# Altium schematic symbol library Schlib_Xilinx.SchLib: 18 symbols (part 3 of 5)
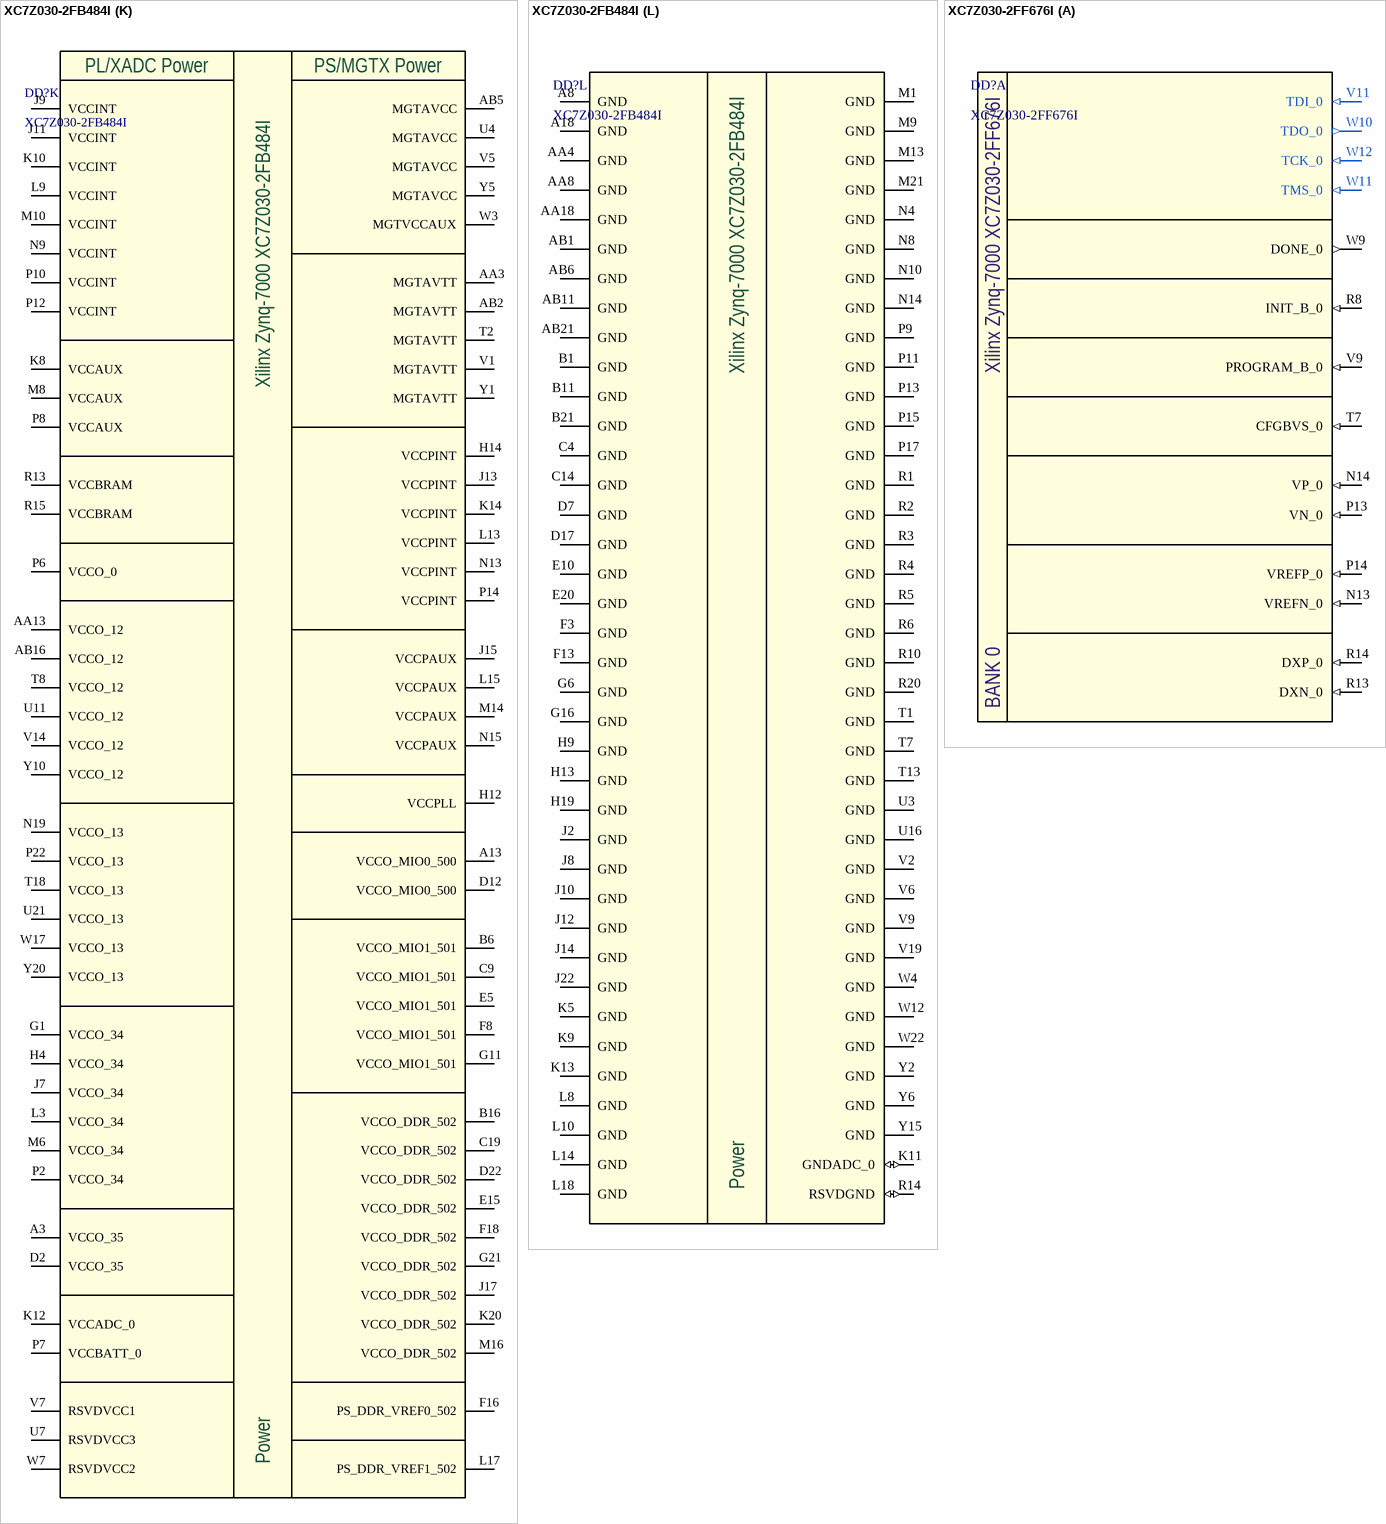
[diagram p59: symbols XC7Z030-2FB484I to XC7Z030-2FF676I]

## XC7Z030-2FB484I
designator DD?
Zynq-7000 Series SoC, Speed Grade 2, Industrial Grade; Manufacturer: Xilinx; Speed Grade: -2; PackageReference: FBG484; Part Number: XC7Z030-2FB484I
footprint FBG484/FBV484 (FBG484/FBV484 Package, 484-Leads, Body 23.00x23.00mmx2.54mm, Pitch 1.00mm)
part A pins: AA7 PROGRAM_B_0 (in), AB7 CFGBVS_0 (in), L11 VREFN_0 (in), L12 VP_0 (in), M11 VN_0 (in), M12 VREFP_0 (in), N11 DXN_0 (in), N12 DXP_0 (in), R7 DONE_0 (out), R8 TDI_0 (in), R9 TMS_0 (in), R11 TDO_0 (out), R12 TCK_0 (in), Y7 INIT_B_0 (in)
part B pins: AA9 IO_L2N_T0_12 (io), AA10 IO_L9P_T1_DQS_12 (io), AA11 IO_L10N_T1_12 (io), AA12 IO_L10P_T1_12 (io), AA14 IO_L16P_T2_12 (io), AA15 IO_L18P_T2_12 (io), AA16 IO_L15N_T2_DQS_12 (io), AA17 IO_L17P_T2_12 (io), AB8 IO_L7N_T1_12 (io), AB9 IO_L7P_T1_12 (io), AB10 IO_L9N_T1_DQS_12 (io), AB12 IO_L8N_T1_12 (io), AB13 IO_L8P_T1_12 (io), AB14 IO_L16N_T2_12 (io), AB15 IO_L18N_T2_12 (io), AB17 IO_L17N_T2_12 (io), T9 IO_L1N_T0_12 (io), T10 IO_L1P_T0_12 (io), T11 IO_25_12 (io), T12 IO_L20P_T3_12 (io), T14 IO_0_12 (io), U8 IO_L3N_T0_DQS_12 (io), U9 IO_L3P_T0_DQS_12 (io), U10 IO_L6P_T0_12 (io), U12 IO_L20N_T3_12 (io), U13 IO_L22P_T3_12 (io), U14 IO_L23N_T3_12 (io), U15 IO_L23P_T3_12 (io), V8 IO_L5P_T0_12 (io), V10 IO_L6N_T0_VREF_12 (io), V11 IO_L24N_T3_12 (io), V12 IO_L24P_T3_12 (io), V13 IO_L22N_T3_12 (io), V15 IO_L19P_T3_12 (io), V16 IO_L21P_T3_DQS_12 (io), W8 IO_L5N_T0_12 (io), W9 IO_L4P_T0_12 (io), W10 IO_L11N_T1_SRCC_12 (io), W11 IO_L11P_T1_SRCC_12 (io), W13 IO_L13N_T2_MRCC_12 (io), W14 IO_L13P_T2_MRCC_12 (io), W15 IO_L19N_T3_VREF_12 (io), W16 IO_L21N_T3_DQS_12 (io), Y8 IO_L4N_T0_12 (io), Y9 IO_L2P_T0_12 (io), Y11 IO_L12N_T1_MRCC_12 (io), Y12 IO_L12P_T1_MRCC_12 (io), Y13 IO_L14N_T2_SRCC_12 (io), Y14 IO_L14P_T2_SRCC_12 (io), Y16 IO_L15P_T2_DQS_12 (io)
part C pins: AA19 IO_L24N_T3_13 (io), AA20 IO_L3P_T0_DQS_13 (io), AA21 IO_L2N_T0_13 (io), AA22 IO_L1P_T0_13 (io), AB18 IO_L23P_T3_13 (io), AB19 IO_L23N_T3_13 (io), AB20 IO_L3N_T0_DQS_13 (io), AB22 IO_L1N_T0_13 (io), N17 IO_L17P_T2_13 (io), N18 IO_L17N_T2_13 (io), N20 IO_L16P_T2_13 (io), N21 IO_L7P_T1_13 (io), N22 IO_L7N_T1_13 (io), P16 IO_0_13 (io), P18 IO_L18P_T2_13 (io), P19 IO_L18N_T2_13 (io), P20 IO_L16N_T2_13 (io), P21 IO_L10P_T1_13 (io), R16 IO_L15P_T2_DQS_13 (io), R17 IO_L14P_T2_SRCC_13 (io), R18 IO_L14N_T2_SRCC_13 (io), R19 IO_L12P_T1_MRCC_13 (io), R21 IO_L10N_T1_13 (io), R22 IO_L8P_T1_13 (io), T15 IO_25_13 (io), T16 IO_L15N_T2_DQS_13 (io), T17 IO_L13P_T2_MRCC_13 (io), T19 IO_L12N_T1_MRCC_13 (io), T20 IO_L11P_T1_SRCC_13 (io), T21 IO_L9P_T1_DQS_13 (io), T22 IO_L8N_T1_13 (io), U17 IO_L13N_T2_MRCC_13 (io), U18 IO_L19P_T3_13 (io), U19 IO_L20P_T3_13 (io), U20 IO_L11N_T1_SRCC_13 (io), U22 IO_L9N_T1_DQS_13 (io), V17 IO_L22P_T3_13 (io), V18 IO_L19N_T3_VREF_13 (io), V20 IO_L20N_T3_13 (io), V21 IO_L5P_T0_13 (io), V22 IO_L5N_T0_13 (io), W18 IO_L22N_T3_13 (io), W19 IO_L6P_T0_13 (io), W20 IO_L6N_T0_VREF_13 (io), W21 IO_L4P_T0_13 (io), Y17 IO_L21P_T3_DQS_13 (io), Y18 IO_L21N_T3_DQS_13 (io), Y19 IO_L24P_T3_13 (io), Y21 IO_L2P_T0_13 (io), Y22 IO_L4N_T0_13 (io)
part D pins: E1 IO_L1N_T0_34 (io), F1 IO_L1P_T0_34 (io), F2 IO_L3N_T0_DQS_34 (io), F4 IO_L8N_T1_34 (io), F5 IO_L8P_T1_34 (io), F6 IO_L10N_T1_34 (io), F7 IO_L10P_T1_34 (io), G2 IO_L3P_T0_DQS_PUDC_B_34 (io), G3 IO_L6N_T0_VREF_34 (io), G4 IO_L6P_T0_34 (io), G5 IO_L11N_T1_SRCC_34 (io), G7 IO_L9N_T1_DQS_34 (io), H1 IO_L5N_T0_34 (io), H2 IO_L5P_T0_34 (io), H3 IO_L4N_T0_34 (io), H5 IO_L11P_T1_SRCC_34 (io), H6 IO_L7N_T1_34 (io), H7 IO_L9P_T1_DQS_34 (io), J1 IO_L2N_T0_34 (io), J3 IO_L4P_T0_34 (io), J4 IO_L12N_T1_MRCC_34 (io), J5 IO_L12P_T1_MRCC_34 (io), J6 IO_L7P_T1_34 (io), K1 IO_L2P_T0_34 (io), K2 IO_L21N_T3_DQS_34 (io), K3 IO_L21P_T3_DQS_34 (io), K4 IO_L14N_T2_SRCC_34 (io), K6 IO_L16N_T2_34 (io), K7 IO_L16P_T2_34 (io), L1 IO_L23N_T3_34 (io), L2 IO_L23P_T3_34 (io), L4 IO_L14P_T2_SRCC_34 (io), L5 IO_L13N_T2_MRCC_34 (io), L6 IO_L18N_T2_34 (io), L7 IO_L18P_T2_34 (io), M2 IO_L20N_T3_34 (io), M3 IO_L20P_T3_34 (io), M4 IO_L17N_T2_34 (io), M5 IO_L13P_T2_MRCC_34 (io), M7 IO_0_VRN_34 (io), N1 IO_L24N_T3_34 (io), N2 IO_L22N_T3_34 (io), N3 IO_L22P_T3_34 (io), N5 IO_L17P_T2_34 (io), N6 IO_L15N_T2_DQS_34 (io), N7 IO_L15P_T2_DQS_34 (io), P1 IO_L24P_T3_34 (io), P3 IO_L19N_T3_VREF_34 (io), P4 IO_L19P_T3_34 (io), P5 IO_25_VRP_34 (io)
part E pins: A1 IO_L3N_T0_DQS_AD1N_35 (io), A2 IO_L3P_T0_DQS_AD1P_35 (io), A4 IO_L2N_T0_AD8N_35 (io), B2 IO_L1N_T0_AD0N_35 (io), B3 IO_0_VRN_35 (io), B4 IO_L2P_T0_AD8P_35 (io), C1 IO_L5N_T0_AD9N_35 (io), C2 IO_L1P_T0_AD0P_35 (io), C3 IO_L6N_T0_VREF_35 (io), D1 IO_L5P_T0_AD9P_35 (io), D3 IO_L19N_T3_VREF_35 (io), E2 IO_25_VRP_35 (io), E3 IO_L19P_T3_35 (io)
part F pins: AA1 MGTXTXN1_112 (out), AA2 MGTXTXP1_112 (out), AA5 MGTXRXN0_112 (in), AA6 MGTXRXP0_112 (in), AB3 MGTXTXN0_112 (out), AB4 MGTXTXP0_112 (out), T3 MGTXRXN3_112 (in), T4 MGTXRXP3_112 (in), T5 MGTRREF_112 (in), T6 MGTAVTTRCAL_112, U1 MGTXTXN3_112 (out), U2 MGTXTXP3_112 (out), U5 MGTREFCLK0N_112 (in), U6 MGTREFCLK0P_112 (in), V3 MGTXRXN2_112 (in), V4 MGTXRXP2_112 (in), W1 MGTXTXN2_112 (out), W2 MGTXTXP2_112 (out), W5 MGTREFCLK1N_112 (in), W6 MGTREFCLK1P_112 (in), Y3 MGTXRXN1_112 (in), Y4 MGTXRXP1_112 (in)
part G pins: A12 PS_CLK_500 (io), A14 PS_MIO9_500 (io), A15 PS_MIO7_500 (io), B12 PS_MIO8_500 (io), B13 PS_MIO5_500 (io), B14 PS_MIO3_500 (io), B15 PS_MIO1_500 (io), C12 PS_POR_B_500 (io), C13 PS_MIO10_500 (io), C15 PS_MIO2_500 (io), D13 PS_MIO14_500 (io), D14 PS_MIO13_500 (io), D15 PS_MIO6_500 (io), E12 PS_MIO12_500 (io), E13 PS_MIO15_500 (io), E14 PS_MIO11_500 (io), F12 PS_MIO4_500 (io), G13 PS_MIO0_500 (io)
part H pins: A5 PS_MIO35_501 (io), A6 PS_MIO31_501 (io), A7 PS_MIO27_501 (io), A9 PS_MIO21_501 (io), A10 PS_MIO17_501 (io), A11 PS_MIO19_501 (io), B5 PS_MIO44_501 (io), B7 PS_MIO38_501 (io), B8 PS_MIO33_501 (io), B9 PS_MIO25_501 (io), B10 PS_MIO23_501 (io), C5 PS_MIO41_501 (io), C6 PS_MIO47_501 (io), C7 PS_MIO53_501 (io), C8 PS_MIO46_501 (io), C10 PS_MIO40_501 (io), C11 PS_MIO29_501 (io), D4 PS_MIO36_501 (io), D5 PS_MIO39_501 (io), D6 PS_MIO43_501 (io), D8 PS_MIO52_501 (io), D9 PS_MIO51_501 (io), D10 PS_MIO49_501 (io), D11 PS_MIO42_501 (io), E4 PS_MIO34_501 (io), E6 PS_MIO32_501 (io), E7 PS_MIO37_501 (io), E8 PS_MIO50_501 (io), E9 PS_MIO45_501 (io), E11 PS_SRST_B_501 (io), F9 PS_MIO30_501 (io), F10 PS_MIO_VREF_501 (io), F11 PS_MIO24_501 (io), G8 PS_MIO48_501 (io), G9 PS_MIO26_501 (io), G10 PS_MIO16_501 (io), G12 PS_MIO22_501 (io), H8 PS_MIO28_501 (io), H10 PS_MIO20_501 (io), H11 PS_MIO18_501 (io)
part I pins: A16 PS_DDR_DQ0_502 (io), A17 PS_DDR_DQ6_502 (io), A19 PS_DDR_DQ5_502 (io), A21 PS_DDR_DQ10_502 (io), B17 PS_DDR_DQS_P0_502 (io), B18 PS_DDR_DQS_N0_502 (io), B19 PS_DDR_DQ4_502 (io), B20 PS_DDR_DQ8_502 (io), B22 PS_DDR_DQ12_502 (io), C16 PS_DDR_DQ2_502 (io), C17 PS_DDR_DQ3_502 (io), C18 PS_DDR_DQ7_502 (io), C20 PS_DDR_DQ14_502 (io), C21 PS_DDR_DQS_N1_502 (io), C22 PS_DDR_DQ15_502 (io), D19 PS_DDR_DQ1_502 (io), D20 PS_DDR_DQ13_502 (io), D21 PS_DDR_DQS_P1_502 (io), E21 PS_DDR_DQ9_502 (io), E22 PS_DDR_DQ11_502 (io), F21 PS_DDR_DQ17_502 (io), F22 PS_DDR_DQ19_502 (io), G19 PS_DDR_DQ16_502 (io), G20 PS_DDR_DQ18_502 (io), G22 PS_DDR_DQ21_502 (io), H20 PS_DDR_DQS_P2_502 (io), H21 PS_DDR_DQS_N2_502 (io), H22 PS_DDR_DQ20_502 (io), J20 PS_DDR_DQ23_502 (io), J21 PS_DDR_DQ22_502 (io), K19 PS_DDR_DQ24_502 (io), K21 PS_DDR_DQ30_502 (io), K22 PS_DDR_DQ28_502 (io), L19 PS_DDR_DQ26_502 (io), L20 PS_DDR_DQS_P3_502 (io), L21 PS_DDR_DQS_N3_502 (io), L22 PS_DDR_DQ29_502 (io), M19 PS_DDR_DQ25_502 (io), M20 PS_DDR_DQ27_502 (io), M22 PS_DDR_DQ31_502 (io)
part J pins: A20 PS_DDR_DM0_502 (io), A22 PS_DDR_DM1_502 (io), D16 PS_DDR_A13_502 (io), D18 PS_DDR_A11_502 (io), E16 PS_DDR_DRST_B_502 (io), E17 PS_DDR_A10_502 (io), E18 PS_DDR_A7_502 (io), E19 PS_DDR_A5_502 (io), F14 PS_DDR_A12_502 (io), F15 PS_DDR_A4_502 (io), F17 PS_DDR_A8_502 (io), F19 PS_DDR_A3_502 (io), F20 PS_DDR_DM2_502 (io), G14 PS_DDR_A14_502 (io), G15 PS_DDR_A0_502 (io), G17 PS_DDR_CKN_502 (io), G18 PS_DDR_BA0_502 (io), H15 PS_DDR_A6_502 (io), H16 PS_DDR_A9_502 (io), H17 PS_DDR_CKP_502 (io), H18 PS_DDR_BA1_502 (io), J16 PS_DDR_A1_502 (io), J18 PS_DDR_BA2_502 (io), J19 PS_DDR_DM3_502 (io), K15 PS_DDR_A2_502 (io), K16 PS_DDR_CS_B_502 (io), K17 PS_DDR_VRP_502 (io), K18 PS_DDR_VRN_502 (io), L16 PS_DDR_WE_B_502 (io), M15 PS_DDR_CKE_502 (io), M17 PS_DDR_RAS_B_502 (io), M18 PS_DDR_CAS_B_502 (io), N16 PS_DDR_ODT_502 (io)
part K pins: A3 VCCO_35 (power), A13 VCCO_MIO0_500 (power), AA3 MGTAVTT (power), AA13 VCCO_12 (power), AB2 MGTAVTT (power), AB5 MGTAVCC (power), AB16 VCCO_12 (power), B6 VCCO_MIO1_501 (power), B16 VCCO_DDR_502 (power), C9 VCCO_MIO1_501 (power), C19 VCCO_DDR_502 (power), D2 VCCO_35 (power), D12 VCCO_MIO0_500 (power), D22 VCCO_DDR_502 (power), E5 VCCO_MIO1_501 (power), E15 VCCO_DDR_502 (power), F8 VCCO_MIO1_501 (power), F16 PS_DDR_VREF0_502 (power), F18 VCCO_DDR_502 (power), G1 VCCO_34 (power), G11 VCCO_MIO1_501 (power), G21 VCCO_DDR_502 (power), H4 VCCO_34 (power), H12 VCCPLL (power), H14 VCCPINT (power), J7 VCCO_34 (power), J9 VCCINT (power), J11 VCCINT (power), J13 VCCPINT (power), J15 VCCPAUX (power), J17 VCCO_DDR_502 (power), K8 VCCAUX (power), K10 VCCINT (power), K12 VCCADC_0 (power), K14 VCCPINT (power), K20 VCCO_DDR_502 (power), L3 VCCO_34 (power), L9 VCCINT (power), L13 VCCPINT (power), L15 VCCPAUX (power), L17 PS_DDR_VREF1_502 (power), M6 VCCO_34 (power), M8 VCCAUX (power), M10 VCCINT (power), M14 VCCPAUX (power), M16 VCCO_DDR_502 (power), N9 VCCINT (power), N13 VCCPINT (power), N15 VCCPAUX (power), N19 VCCO_13 (power), P2 VCCO_34 (power), P6 VCCO_0 (power), P7 VCCBATT_0 (power), P8 VCCAUX (power), P10 VCCINT (power), P12 VCCINT (power), P14 VCCPINT (power), P22 VCCO_13 (power), R13 VCCBRAM (power), R15 VCCBRAM (power), T2 MGTAVTT (power), T8 VCCO_12 (power), T18 VCCO_13 (power), U4 MGTAVCC (power), U7 RSVDVCC3 (power), U11 VCCO_12 (power), U21 VCCO_13 (power), V1 MGTAVTT (power), V5 MGTAVCC (power), V7 RSVDVCC1 (power), V14 VCCO_12 (power), W3 MGTVCCAUX (power), W7 RSVDVCC2 (power), W17 VCCO_13 (power), Y1 MGTAVTT (power), Y5 MGTAVCC (power), Y10 VCCO_12 (power), Y20 VCCO_13 (power)
part L pins: A8 GND (power), A18 GND (power), AA4 GND (power), AA8 GND (power), AA18 GND (power), AB1 GND (power), AB6 GND (power), AB11 GND (power), AB21 GND (power), B1 GND (power), B11 GND (power), B21 GND (power), C4 GND (power), C14 GND (power), D7 GND (power), D17 GND (power), E10 GND (power), E20 GND (power), F3 GND (power), F13 GND (power), G6 GND (power), G16 GND (power), H9 GND (power), H13 GND (power), H19 GND (power), J2 GND (power), J8 GND (power), J10 GND (power), J12 GND (power), J14 GND (power), J22 GND (power), K5 GND (power), K9 GND (power), K11 GNDADC_0 (io), K13 GND (power), L8 GND (power), L10 GND (power), L14 GND (power), L18 GND (power), M1 GND (power), M9 GND (power), M13 GND (power), M21 GND (power), N4 GND (power), N8 GND (power), N10 GND (power), N14 GND (power), P9 GND (power), P11 GND (power), P13 GND (power), P15 GND (power), P17 GND (power), R1 GND (power), R2 GND (power), R3 GND (power), R4 GND (power), R5 GND (power), R6 GND (power), R10 GND (power), R14 RSVDGND (io), R20 GND (power), T1 GND (power), T7 GND (power), T13 GND (power), U3 GND (power), U16 GND (power), V2 GND (power), V6 GND (power), V9 GND (power), V19 GND (power), W4 GND (power), W12 GND (power), W22 GND (power), Y2 GND (power), Y6 GND (power), Y15 GND (power)
part A text: Xilinx Zynq-7000 XC7Z030-2FB484I; BANK 0
part B text: Xilinx Zynq-7000 XC7Z030-2FB484I; BANK 12
part C text: Xilinx Zynq-7000 XC7Z030-2FB484I; BANK 13
part D text: Xilinx Zynq-7000 XC7Z030-2FB484I; BANK 34
part E text: Xilinx Zynq-7000 XC7Z030-2FB484I; BANK 35
part F text: Xilinx Zynq-7000 XC7Z030-2FB484I; BANK 112
part G text: Xilinx Zynq-7000 XC7Z030-2FB484I; BANK 500
part H text: Xilinx Zynq-7000 XC7Z030-2FB484I; BANK 501
part I text: Xilinx Zynq-7000 XC7Z030-2FB484I; BANK 502
part J text: Xilinx Zynq-7000 XC7Z030-2FB484I; BANK 502
part K text: PL/XADC Power; PS/MGTX Power; Xilinx Zynq-7000 XC7Z030-2FB484I; Power
part L text: Xilinx Zynq-7000 XC7Z030-2FB484I; Power

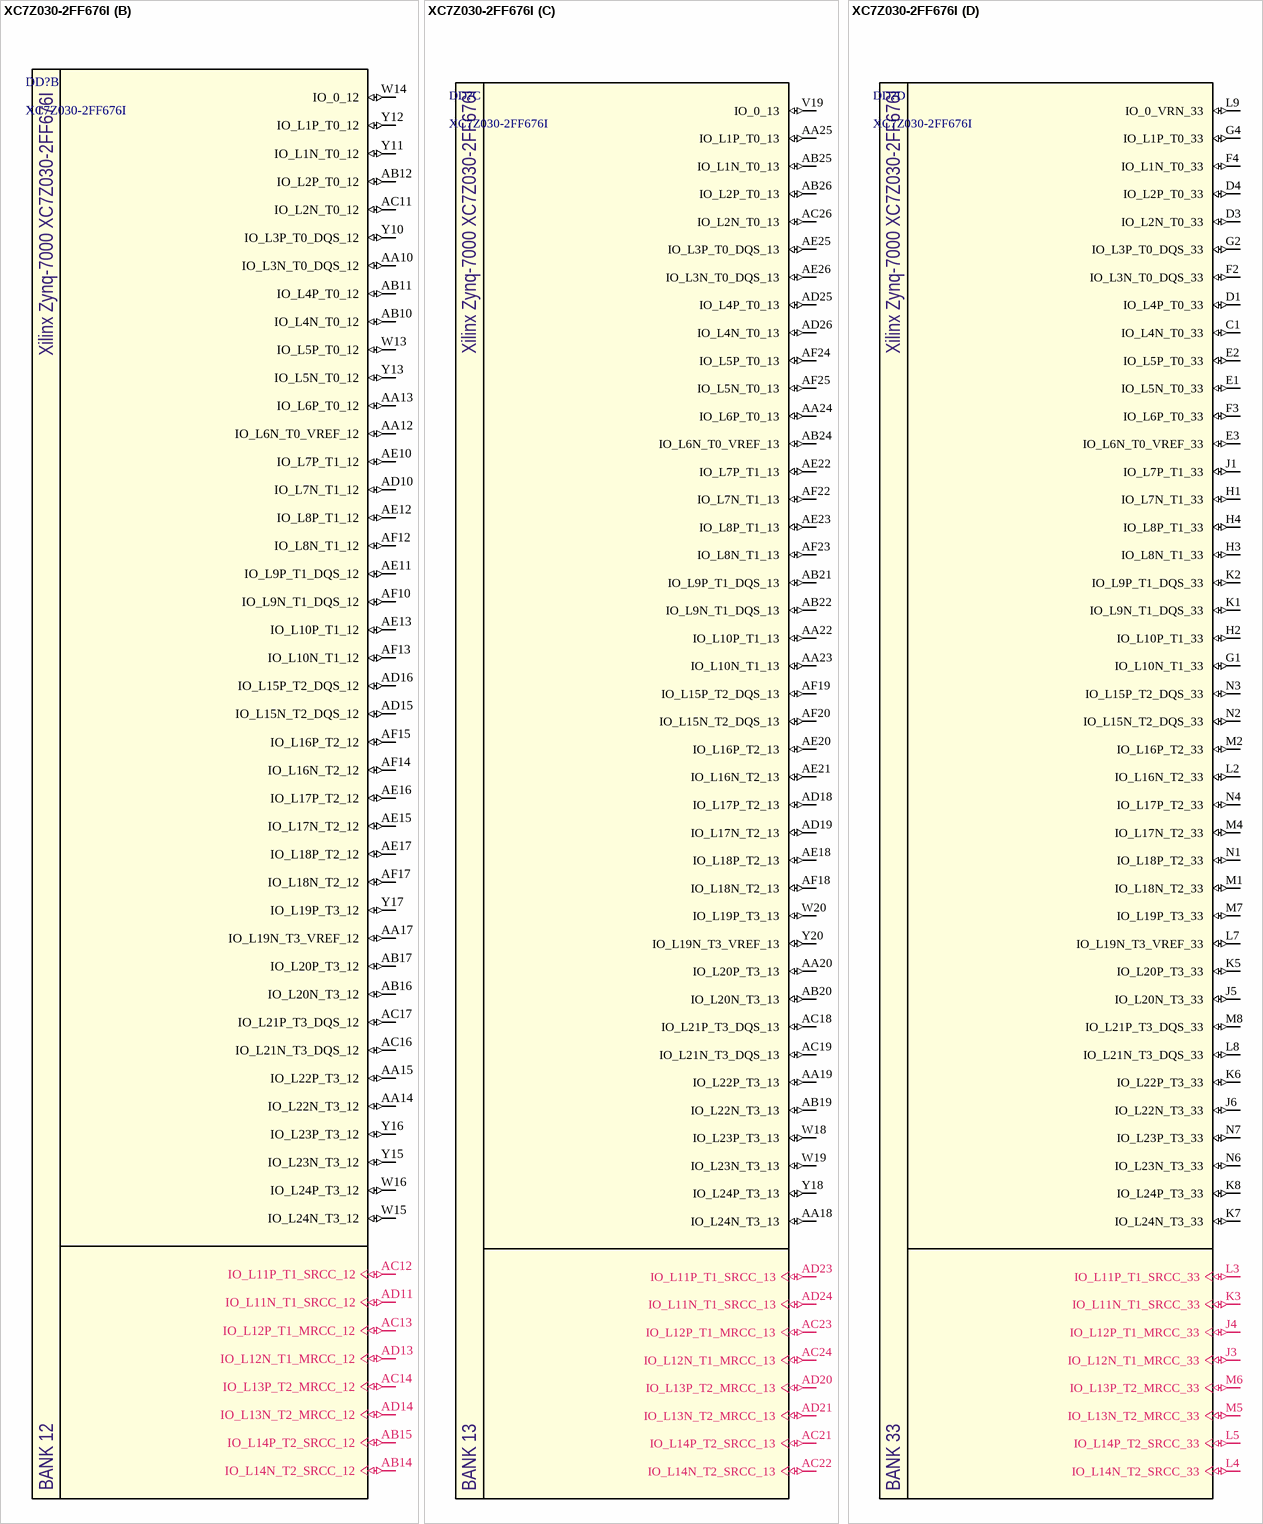
[diagram p32: symbol XC7Z030-2FF676I]

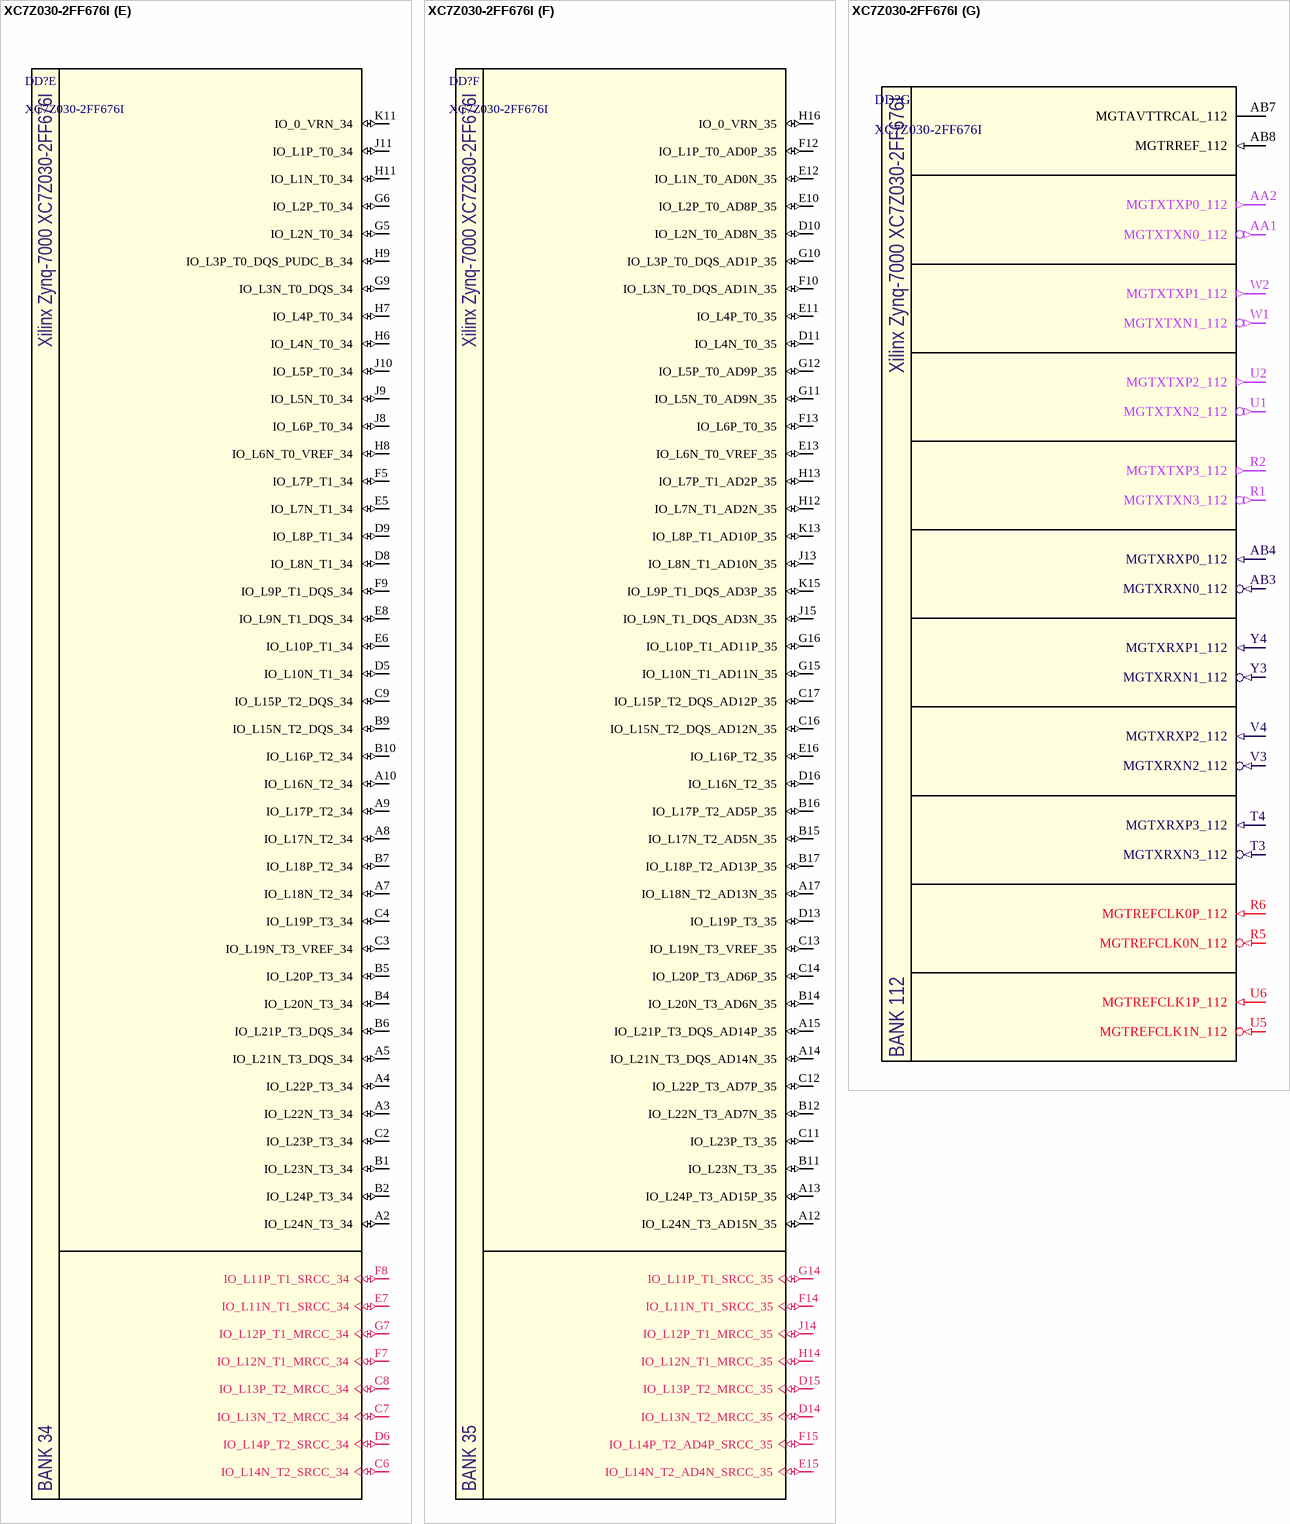
[diagram p33: symbol XC7Z030-2FF676I]

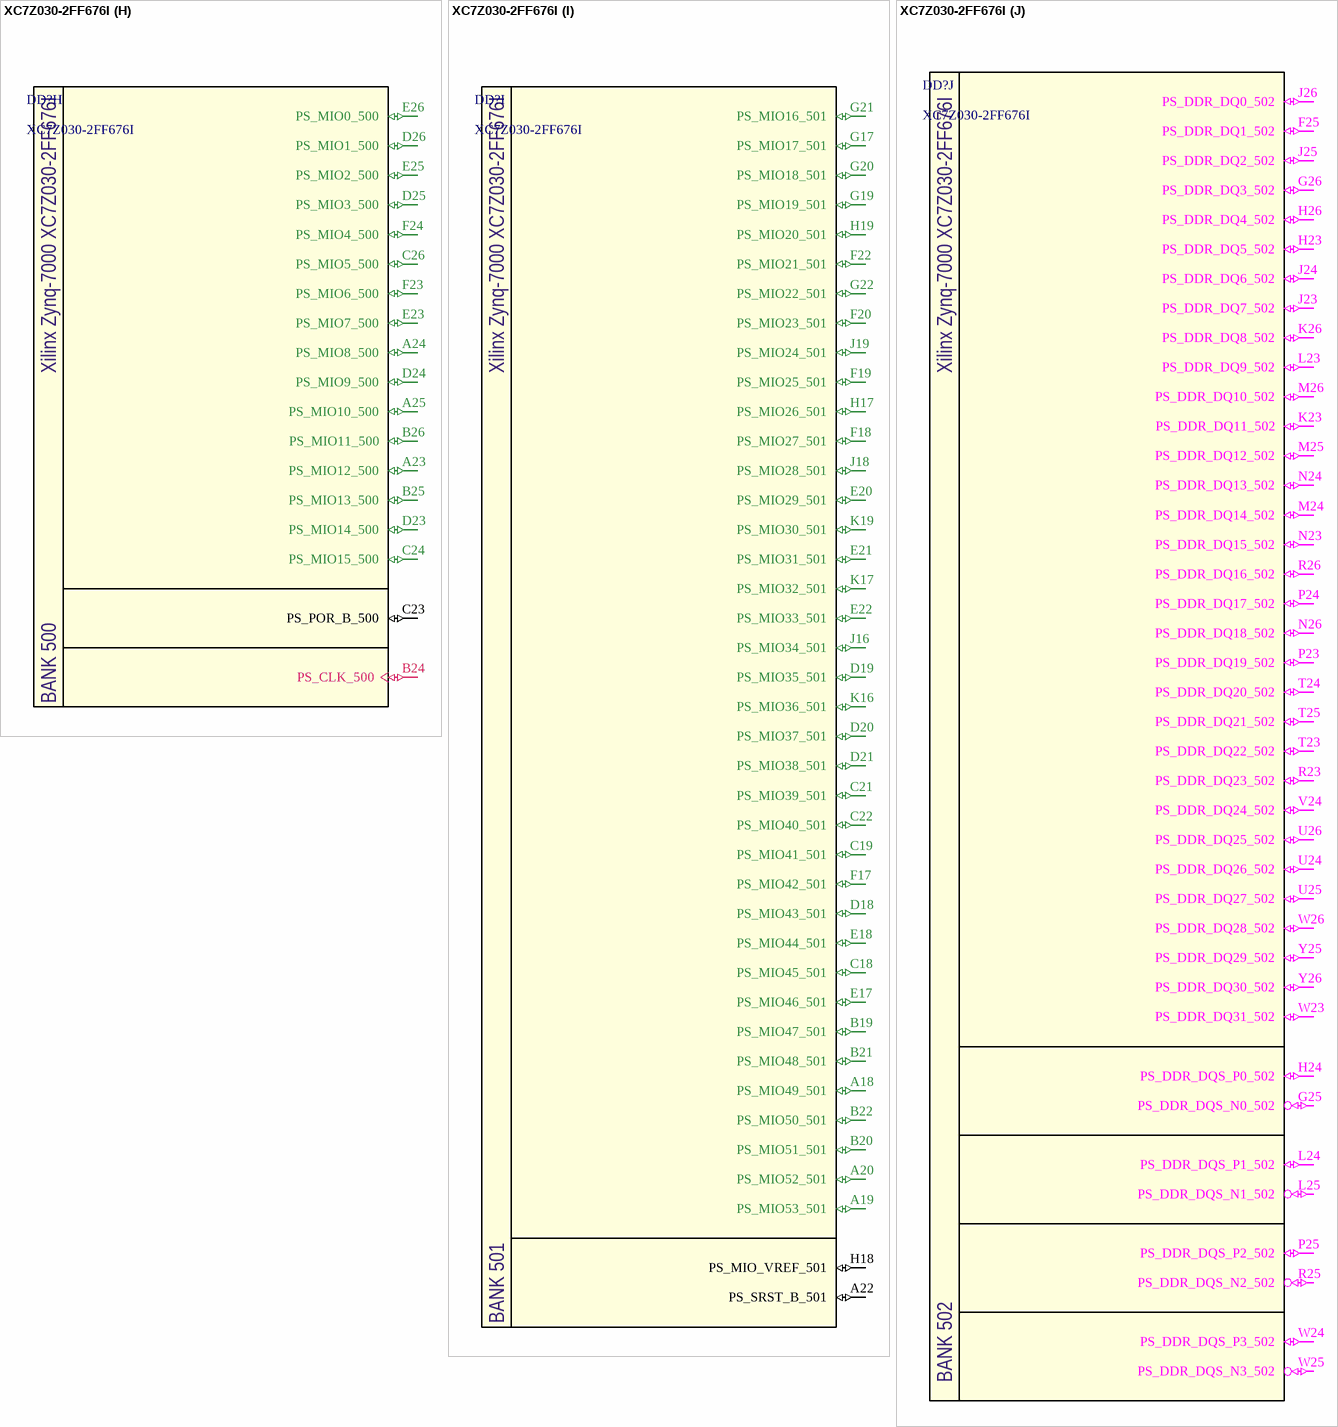
[diagram p34: symbol XC7Z030-2FF676I]

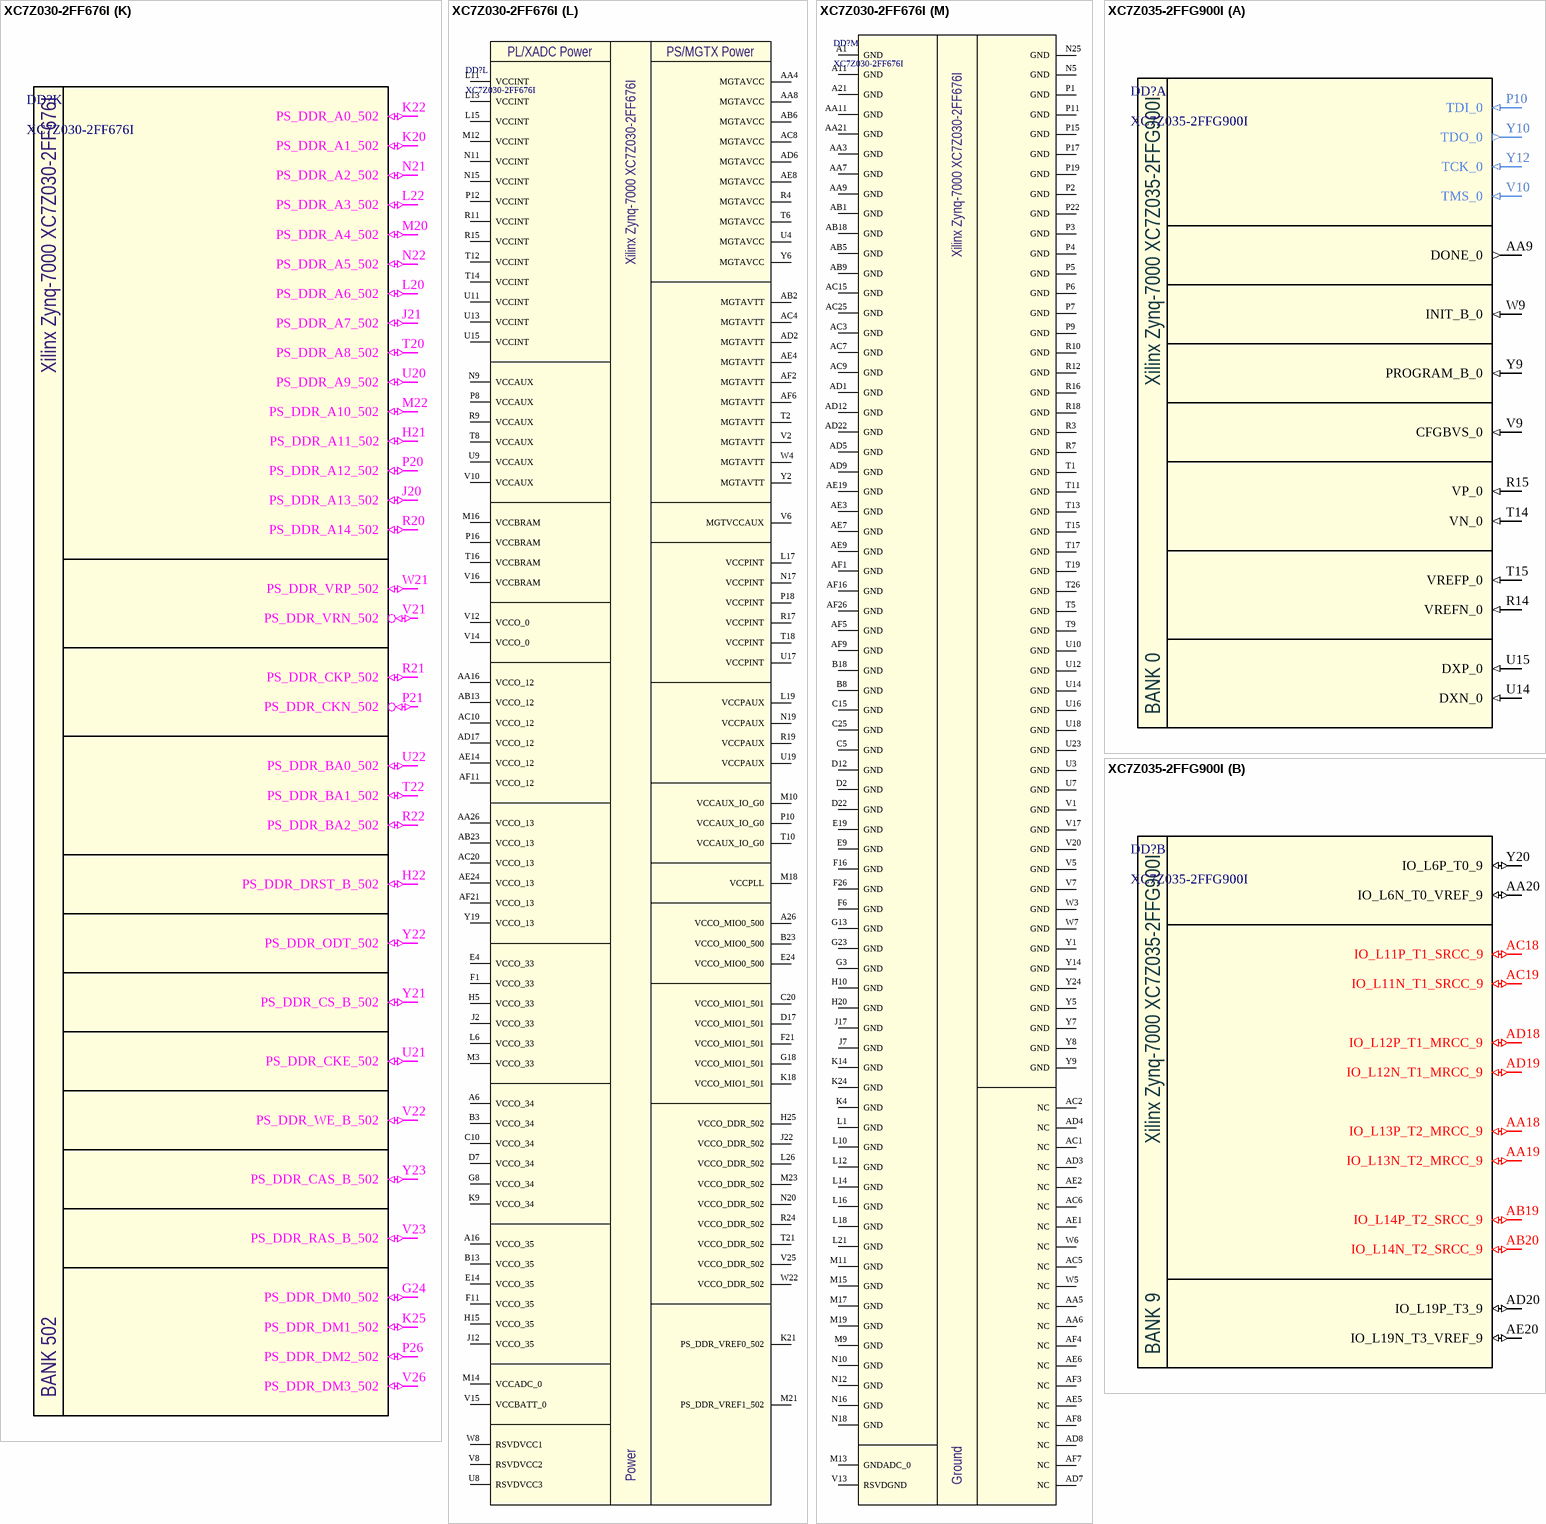
[diagram p35: symbols XC7Z030-2FF676I to XC7Z035-2FFG900I]

## XC7Z030-2FF676I
designator DD?
Zynq-7000 Series SoC, Speed Grade 2, Industrial Grade; Manufacturer: Xilinx; Speed Grade: -2; PackageReference: FBG484; Part Number: XC7Z030-2FF676I
footprint FB676 (XC7Z030) (BGA, 676-Leads, Body 27.00x27.00mmx2.54mm, Pitch 1.00mm)
part A pins: N13 VREFN_0 (in), N14 VP_0 (in), P13 VN_0 (in), P14 VREFP_0 (in), R8 INIT_B_0 (in), R13 DXN_0 (in), R14 DXP_0 (in), T7 CFGBVS_0 (in), V9 PROGRAM_B_0 (in), V11 TDI_0 (in), W9 DONE_0 (out), W10 TDO_0 (out), W11 TMS_0 (in), W12 TCK_0 (in)
part B pins: AA10 IO_L3N_T0_DQS_12 (io), AA12 IO_L6N_T0_VREF_12 (io), AA13 IO_L6P_T0_12 (io), AA14 IO_L22N_T3_12 (io), AA15 IO_L22P_T3_12 (io), AA17 IO_L19N_T3_VREF_12 (io), AB10 IO_L4N_T0_12 (io), AB11 IO_L4P_T0_12 (io), AB12 IO_L2P_T0_12 (io), AB14 IO_L14N_T2_SRCC_12 (io), AB15 IO_L14P_T2_SRCC_12 (io), AB16 IO_L20N_T3_12 (io), AB17 IO_L20P_T3_12 (io), AC11 IO_L2N_T0_12 (io), AC12 IO_L11P_T1_SRCC_12 (io), AC13 IO_L12P_T1_MRCC_12 (io), AC14 IO_L13P_T2_MRCC_12 (io), AC16 IO_L21N_T3_DQS_12 (io), AC17 IO_L21P_T3_DQS_12 (io), AD10 IO_L7N_T1_12 (io), AD11 IO_L11N_T1_SRCC_12 (io), AD13 IO_L12N_T1_MRCC_12 (io), AD14 IO_L13N_T2_MRCC_12 (io), AD15 IO_L15N_T2_DQS_12 (io), AD16 IO_L15P_T2_DQS_12 (io), AE10 IO_L7P_T1_12 (io), AE11 IO_L9P_T1_DQS_12 (io), AE12 IO_L8P_T1_12 (io), AE13 IO_L10P_T1_12 (io), AE15 IO_L17N_T2_12 (io), AE16 IO_L17P_T2_12 (io), AE17 IO_L18P_T2_12 (io), AF10 IO_L9N_T1_DQS_12 (io), AF12 IO_L8N_T1_12 (io), AF13 IO_L10N_T1_12 (io), AF14 IO_L16N_T2_12 (io), AF15 IO_L16P_T2_12 (io), AF17 IO_L18N_T2_12 (io), W13 IO_L5P_T0_12 (io), W14 IO_0_12 (io), W15 IO_L24N_T3_12 (io), W16 IO_L24P_T3_12 (io), Y10 IO_L3P_T0_DQS_12 (io), Y11 IO_L1N_T0_12 (io), Y12 IO_L1P_T0_12 (io), Y13 IO_L5N_T0_12 (io), Y15 IO_L23N_T3_12 (io), Y16 IO_L23P_T3_12 (io), Y17 IO_L19P_T3_12 (io)
part C pins: AA18 IO_L24N_T3_13 (io), AA19 IO_L22P_T3_13 (io), AA20 IO_L20P_T3_13 (io), AA22 IO_L10P_T1_13 (io), AA23 IO_L10N_T1_13 (io), AA24 IO_L6P_T0_13 (io), AA25 IO_L1P_T0_13 (io), AB19 IO_L22N_T3_13 (io), AB20 IO_L20N_T3_13 (io), AB21 IO_L9P_T1_DQS_13 (io), AB22 IO_L9N_T1_DQS_13 (io), AB24 IO_L6N_T0_VREF_13 (io), AB25 IO_L1N_T0_13 (io), AB26 IO_L2P_T0_13 (io), AC18 IO_L21P_T3_DQS_13 (io), AC19 IO_L21N_T3_DQS_13 (io), AC21 IO_L14P_T2_SRCC_13 (io), AC22 IO_L14N_T2_SRCC_13 (io), AC23 IO_L12P_T1_MRCC_13 (io), AC24 IO_L12N_T1_MRCC_13 (io), AC26 IO_L2N_T0_13 (io), AD18 IO_L17P_T2_13 (io), AD19 IO_L17N_T2_13 (io), AD20 IO_L13P_T2_MRCC_13 (io), AD21 IO_L13N_T2_MRCC_13 (io), AD23 IO_L11P_T1_SRCC_13 (io), AD24 IO_L11N_T1_SRCC_13 (io), AD25 IO_L4P_T0_13 (io), AD26 IO_L4N_T0_13 (io), AE18 IO_L18P_T2_13 (io), AE20 IO_L16P_T2_13 (io), AE21 IO_L16N_T2_13 (io), AE22 IO_L7P_T1_13 (io), AE23 IO_L8P_T1_13 (io), AE25 IO_L3P_T0_DQS_13 (io), AE26 IO_L3N_T0_DQS_13 (io), AF18 IO_L18N_T2_13 (io), AF19 IO_L15P_T2_DQS_13 (io), AF20 IO_L15N_T2_DQS_13 (io), AF22 IO_L7N_T1_13 (io), AF23 IO_L8N_T1_13 (io), AF24 IO_L5P_T0_13 (io), AF25 IO_L5N_T0_13 (io), V19 IO_0_13 (io), W18 IO_L23P_T3_13 (io), W19 IO_L23N_T3_13 (io), W20 IO_L19P_T3_13 (io), Y18 IO_L24P_T3_13 (io), Y20 IO_L19N_T3_VREF_13 (io)
part D pins: C1 IO_L4N_T0_33 (io), D1 IO_L4P_T0_33 (io), D3 IO_L2N_T0_33 (io), D4 IO_L2P_T0_33 (io), E1 IO_L5N_T0_33 (io), E2 IO_L5P_T0_33 (io), E3 IO_L6N_T0_VREF_33 (io), F2 IO_L3N_T0_DQS_33 (io), F3 IO_L6P_T0_33 (io), F4 IO_L1N_T0_33 (io), G1 IO_L10N_T1_33 (io), G2 IO_L3P_T0_DQS_33 (io), G4 IO_L1P_T0_33 (io), H1 IO_L7N_T1_33 (io), H2 IO_L10P_T1_33 (io), H3 IO_L8N_T1_33 (io), H4 IO_L8P_T1_33 (io), J1 IO_L7P_T1_33 (io), J3 IO_L12N_T1_MRCC_33 (io), J4 IO_L12P_T1_MRCC_33 (io), J5 IO_L20N_T3_33 (io), J6 IO_L22N_T3_33 (io), K1 IO_L9N_T1_DQS_33 (io), K2 IO_L9P_T1_DQS_33 (io), K3 IO_L11N_T1_SRCC_33 (io), K5 IO_L20P_T3_33 (io), K6 IO_L22P_T3_33 (io), K7 IO_L24N_T3_33 (io), K8 IO_L24P_T3_33 (io), L2 IO_L16N_T2_33 (io), L3 IO_L11P_T1_SRCC_33 (io), L4 IO_L14N_T2_SRCC_33 (io), L5 IO_L14P_T2_SRCC_33 (io), L7 IO_L19N_T3_VREF_33 (io), L8 IO_L21N_T3_DQS_33 (io), L9 IO_0_VRN_33 (io), M1 IO_L18N_T2_33 (io), M2 IO_L16P_T2_33 (io), M4 IO_L17N_T2_33 (io), M5 IO_L13N_T2_MRCC_33 (io), M6 IO_L13P_T2_MRCC_33 (io), M7 IO_L19P_T3_33 (io), M8 IO_L21P_T3_DQS_33 (io), N1 IO_L18P_T2_33 (io), N2 IO_L15N_T2_DQS_33 (io), N3 IO_L15P_T2_DQS_33 (io), N4 IO_L17P_T2_33 (io), N6 IO_L23N_T3_33 (io), N7 IO_L23P_T3_33 (io)
part E pins: A2 IO_L24N_T3_34 (io), A3 IO_L22N_T3_34 (io), A4 IO_L22P_T3_34 (io), A5 IO_L21N_T3_DQS_34 (io), A7 IO_L18N_T2_34 (io), A8 IO_L17N_T2_34 (io), A9 IO_L17P_T2_34 (io), A10 IO_L16N_T2_34 (io), B1 IO_L23N_T3_34 (io), B2 IO_L24P_T3_34 (io), B4 IO_L20N_T3_34 (io), B5 IO_L20P_T3_34 (io), B6 IO_L21P_T3_DQS_34 (io), B7 IO_L18P_T2_34 (io), B9 IO_L15N_T2_DQS_34 (io), B10 IO_L16P_T2_34 (io), C2 IO_L23P_T3_34 (io), C3 IO_L19N_T3_VREF_34 (io), C4 IO_L19P_T3_34 (io), C6 IO_L14N_T2_SRCC_34 (io), C7 IO_L13N_T2_MRCC_34 (io), C8 IO_L13P_T2_MRCC_34 (io), C9 IO_L15P_T2_DQS_34 (io), D5 IO_L10N_T1_34 (io), D6 IO_L14P_T2_SRCC_34 (io), D8 IO_L8N_T1_34 (io), D9 IO_L8P_T1_34 (io), E5 IO_L7N_T1_34 (io), E6 IO_L10P_T1_34 (io), E7 IO_L11N_T1_SRCC_34 (io), E8 IO_L9N_T1_DQS_34 (io), F5 IO_L7P_T1_34 (io), F7 IO_L12N_T1_MRCC_34 (io), F8 IO_L11P_T1_SRCC_34 (io), F9 IO_L9P_T1_DQS_34 (io), G5 IO_L2N_T0_34 (io), G6 IO_L2P_T0_34 (io), G7 IO_L12P_T1_MRCC_34 (io), G9 IO_L3N_T0_DQS_34 (io), H6 IO_L4N_T0_34 (io), H7 IO_L4P_T0_34 (io), H8 IO_L6N_T0_VREF_34 (io), H9 IO_L3P_T0_DQS_PUDC_B_34 (io), H11 IO_L1N_T0_34 (io), J8 IO_L6P_T0_34 (io), J9 IO_L5N_T0_34 (io), J10 IO_L5P_T0_34 (io), J11 IO_L1P_T0_34 (io), K11 IO_0_VRN_34 (io)
part F pins: A12 IO_L24N_T3_AD15N_35 (io), A13 IO_L24P_T3_AD15P_35 (io), A14 IO_L21N_T3_DQS_AD14N_35 (io), A15 IO_L21P_T3_DQS_AD14P_35 (io), A17 IO_L18N_T2_AD13N_35 (io), B11 IO_L23N_T3_35 (io), B12 IO_L22N_T3_AD7N_35 (io), B14 IO_L20N_T3_AD6N_35 (io), B15 IO_L17N_T2_AD5N_35 (io), B16 IO_L17P_T2_AD5P_35 (io), B17 IO_L18P_T2_AD13P_35 (io), C11 IO_L23P_T3_35 (io), C12 IO_L22P_T3_AD7P_35 (io), C13 IO_L19N_T3_VREF_35 (io), C14 IO_L20P_T3_AD6P_35 (io), C16 IO_L15N_T2_DQS_AD12N_35 (io), C17 IO_L15P_T2_DQS_AD12P_35 (io), D10 IO_L2N_T0_AD8N_35 (io), D11 IO_L4N_T0_35 (io), D13 IO_L19P_T3_35 (io), D14 IO_L13N_T2_MRCC_35 (io), D15 IO_L13P_T2_MRCC_35 (io), D16 IO_L16N_T2_35 (io), E10 IO_L2P_T0_AD8P_35 (io), E11 IO_L4P_T0_35 (io), E12 IO_L1N_T0_AD0N_35 (io), E13 IO_L6N_T0_VREF_35 (io), E15 IO_L14N_T2_AD4N_SRCC_35 (io), E16 IO_L16P_T2_35 (io), F10 IO_L3N_T0_DQS_AD1N_35 (io), F12 IO_L1P_T0_AD0P_35 (io), F13 IO_L6P_T0_35 (io), F14 IO_L11N_T1_SRCC_35 (io), F15 IO_L14P_T2_AD4P_SRCC_35 (io), G10 IO_L3P_T0_DQS_AD1P_35 (io), G11 IO_L5N_T0_AD9N_35 (io), G12 IO_L5P_T0_AD9P_35 (io), G14 IO_L11P_T1_SRCC_35 (io), G15 IO_L10N_T1_AD11N_35 (io), G16 IO_L10P_T1_AD11P_35 (io), H12 IO_L7N_T1_AD2N_35 (io), H13 IO_L7P_T1_AD2P_35 (io), H14 IO_L12N_T1_MRCC_35 (io), H16 IO_0_VRN_35 (io), J13 IO_L8N_T1_AD10N_35 (io), J14 IO_L12P_T1_MRCC_35 (io), J15 IO_L9N_T1_DQS_AD3N_35 (io), K13 IO_L8P_T1_AD10P_35 (io), K15 IO_L9P_T1_DQS_AD3P_35 (io)
part G pins: AA1 MGTXTXN0_112 (out), AA2 MGTXTXP0_112 (out), AB3 MGTXRXN0_112 (in), AB4 MGTXRXP0_112 (in), AB7 MGTAVTTRCAL_112, AB8 MGTRREF_112 (in), R1 MGTXTXN3_112 (out), R2 MGTXTXP3_112 (out), R5 MGTREFCLK0N_112 (in), R6 MGTREFCLK0P_112 (in), T3 MGTXRXN3_112 (in), T4 MGTXRXP3_112 (in), U1 MGTXTXN2_112 (out), U2 MGTXTXP2_112 (out), U5 MGTREFCLK1N_112 (in), U6 MGTREFCLK1P_112 (in), V3 MGTXRXN2_112 (in), V4 MGTXRXP2_112 (in), W1 MGTXTXN1_112 (out), W2 MGTXTXP1_112 (out), Y3 MGTXRXN1_112 (in), Y4 MGTXRXP1_112 (in)
part H pins: A23 PS_MIO12_500 (io), A24 PS_MIO8_500 (io), A25 PS_MIO10_500 (io), B24 PS_CLK_500 (io), B25 PS_MIO13_500 (io), B26 PS_MIO11_500 (io), C23 PS_POR_B_500 (io), C24 PS_MIO15_500 (io), C26 PS_MIO5_500 (io), D23 PS_MIO14_500 (io), D24 PS_MIO9_500 (io), D25 PS_MIO3_500 (io), D26 PS_MIO1_500 (io), E23 PS_MIO7_500 (io), E25 PS_MIO2_500 (io), E26 PS_MIO0_500 (io), F23 PS_MIO6_500 (io), F24 PS_MIO4_500 (io)
part I pins: A18 PS_MIO49_501 (io), A19 PS_MIO53_501 (io), A20 PS_MIO52_501 (io), A22 PS_SRST_B_501 (io), B19 PS_MIO47_501 (io), B20 PS_MIO51_501 (io), B21 PS_MIO48_501 (io), B22 PS_MIO50_501 (io), C18 PS_MIO45_501 (io), C19 PS_MIO41_501 (io), C21 PS_MIO39_501 (io), C22 PS_MIO40_501 (io), D18 PS_MIO43_501 (io), D19 PS_MIO35_501 (io), D20 PS_MIO37_501 (io), D21 PS_MIO38_501 (io), E17 PS_MIO46_501 (io), E18 PS_MIO44_501 (io), E20 PS_MIO29_501 (io), E21 PS_MIO31_501 (io), E22 PS_MIO33_501 (io), F17 PS_MIO42_501 (io), F18 PS_MIO27_501 (io), F19 PS_MIO25_501 (io), F20 PS_MIO23_501 (io), F22 PS_MIO21_501 (io), G17 PS_MIO17_501 (io), G19 PS_MIO19_501 (io), G20 PS_MIO18_501 (io), G21 PS_MIO16_501 (io), G22 PS_MIO22_501 (io), H17 PS_MIO26_501 (io), H18 PS_MIO_VREF_501 (io), H19 PS_MIO20_501 (io), J16 PS_MIO34_501 (io), J18 PS_MIO28_501 (io), J19 PS_MIO24_501 (io), K16 PS_MIO36_501 (io), K17 PS_MIO32_501 (io), K19 PS_MIO30_501 (io)
part J pins: F25 PS_DDR_DQ1_502 (io), G25 PS_DDR_DQS_N0_502 (io), G26 PS_DDR_DQ3_502 (io), H23 PS_DDR_DQ5_502 (io), H24 PS_DDR_DQS_P0_502 (io), H26 PS_DDR_DQ4_502 (io), J23 PS_DDR_DQ7_502 (io), J24 PS_DDR_DQ6_502 (io), J25 PS_DDR_DQ2_502 (io), J26 PS_DDR_DQ0_502 (io), K23 PS_DDR_DQ11_502 (io), K26 PS_DDR_DQ8_502 (io), L23 PS_DDR_DQ9_502 (io), L24 PS_DDR_DQS_P1_502 (io), L25 PS_DDR_DQS_N1_502 (io), M24 PS_DDR_DQ14_502 (io), M25 PS_DDR_DQ12_502 (io), M26 PS_DDR_DQ10_502 (io), N23 PS_DDR_DQ15_502 (io), N24 PS_DDR_DQ13_502 (io), N26 PS_DDR_DQ18_502 (io), P23 PS_DDR_DQ19_502 (io), P24 PS_DDR_DQ17_502 (io), P25 PS_DDR_DQS_P2_502 (io), R23 PS_DDR_DQ23_502 (io), R25 PS_DDR_DQS_N2_502 (io), R26 PS_DDR_DQ16_502 (io), T23 PS_DDR_DQ22_502 (io), T24 PS_DDR_DQ20_502 (io), T25 PS_DDR_DQ21_502 (io), U24 PS_DDR_DQ26_502 (io), U25 PS_DDR_DQ27_502 (io), U26 PS_DDR_DQ25_502 (io), V24 PS_DDR_DQ24_502 (io), W23 PS_DDR_DQ31_502 (io), W24 PS_DDR_DQS_P3_502 (io), W25 PS_DDR_DQS_N3_502 (io), W26 PS_DDR_DQ28_502 (io), Y25 PS_DDR_DQ29_502 (io), Y26 PS_DDR_DQ30_502 (io)
part K pins: G24 PS_DDR_DM0_502 (io), H21 PS_DDR_A11_502 (io), H22 PS_DDR_DRST_B_502 (io), J20 PS_DDR_A13_502 (io), J21 PS_DDR_A7_502 (io), K20 PS_DDR_A1_502 (io), K22 PS_DDR_A0_502 (io), K25 PS_DDR_DM1_502 (io), L20 PS_DDR_A6_502 (io), L22 PS_DDR_A3_502 (io), M20 PS_DDR_A4_502 (io), M22 PS_DDR_A10_502 (io), N21 PS_DDR_A2_502 (io), N22 PS_DDR_A5_502 (io), P20 PS_DDR_A12_502 (io), P21 PS_DDR_CKN_502 (io), P26 PS_DDR_DM2_502 (io), R20 PS_DDR_A14_502 (io), R21 PS_DDR_CKP_502 (io), R22 PS_DDR_BA2_502 (io), T20 PS_DDR_A8_502 (io), T22 PS_DDR_BA1_502 (io), U20 PS_DDR_A9_502 (io), U21 PS_DDR_CKE_502 (io), U22 PS_DDR_BA0_502 (io), V21 PS_DDR_VRN_502 (io), V22 PS_DDR_WE_B_502 (io), V23 PS_DDR_RAS_B_502 (io), V26 PS_DDR_DM3_502 (io), W21 PS_DDR_VRP_502 (io), Y21 PS_DDR_CS_B_502 (io), Y22 PS_DDR_ODT_502 (io), Y23 PS_DDR_CAS_B_502 (io)
part L pins: A6 VCCO_34 (power), A16 VCCO_35 (power), A26 VCCO_MIO0_500 (power), AA4 MGTAVCC (power), AA8 MGTAVCC (power), AA16 VCCO_12 (power), AA26 VCCO_13 (power), AB2 MGTAVTT (power), AB6 MGTAVCC (power), AB13 VCCO_12 (power), AB23 VCCO_13 (power), AC4 MGTAVTT (power), AC8 MGTAVCC (power), AC10 VCCO_12 (power), AC20 VCCO_13 (power), AD2 MGTAVTT (power), AD6 MGTAVCC (power), AD17 VCCO_12 (power), AE4 MGTAVTT (power), AE8 MGTAVCC (power), AE14 VCCO_12 (power), AE24 VCCO_13 (power), AF2 MGTAVTT (power), AF6 MGTAVTT (power), AF11 VCCO_12 (power), AF21 VCCO_13 (power), B3 VCCO_34 (power), B13 VCCO_35 (power), B23 VCCO_MIO0_500 (power), C10 VCCO_34 (power), C20 VCCO_MIO1_501 (power), D7 VCCO_34 (power), D17 VCCO_MIO1_501 (power), E4 VCCO_33 (power), E14 VCCO_35 (power), E24 VCCO_MIO0_500 (power), F1 VCCO_33 (power), F11 VCCO_35 (power), F21 VCCO_MIO1_501 (power), G8 VCCO_34 (power), G18 VCCO_MIO1_501 (power), H5 VCCO_33 (power), H15 VCCO_35 (power), H25 VCCO_DDR_502 (power), J2 VCCO_33 (power), J12 VCCO_35 (power), J22 VCCO_DDR_502 (power), K9 VCCO_34 (power), K18 VCCO_MIO1_501 (power), K21 PS_DDR_VREF0_502 (power), L6 VCCO_33 (power), L11 VCCINT (power), L13 VCCINT (power), L15 VCCINT (power), L17 VCCPINT (power), L19 VCCPAUX (power), L26 VCCO_DDR_502 (power), M3 VCCO_33 (power), M10 VCCAUX_IO_G0 (power), M12 VCCINT (power), M14 VCCADC_0 (power), M16 VCCBRAM (power), M18 VCCPLL (power), M21 PS_DDR_VREF1_502 (power), M23 VCCO_DDR_502 (power), N9 VCCAUX (power), N11 VCCINT (power), N15 VCCINT (power), N17 VCCPINT (power), N19 VCCPAUX (power), N20 VCCO_DDR_502 (power), P8 VCCAUX (power), P10 VCCAUX_IO_G0 (power), P12 VCCINT (power), P16 VCCBRAM (power), P18 VCCPINT (power), R4 MGTAVCC (power), R9 VCCAUX (power), R11 VCCINT (power), R15 VCCINT (power), R17 VCCPINT (power), R19 VCCPAUX (power), R24 VCCO_DDR_502 (power), T2 MGTAVTT (power), T6 MGTAVCC (power), T8 VCCAUX (power), T10 VCCAUX_IO_G0 (power), T12 VCCINT (power), T14 VCCINT (power), T16 VCCBRAM (power), T18 VCCPINT (power), T21 VCCO_DDR_502 (power), U4 MGTAVCC (power), U8 RSVDVCC3 (power), U9 VCCAUX (power), U11 VCCINT (power), U13 VCCINT (power), U15 VCCINT (power), U17 VCCPINT (power), U19 VCCPAUX (power), V2 MGTAVTT (power), V6 MGTVCCAUX (power), V8 RSVDVCC2 (power), V10 VCCAUX (power), V12 VCCO_0 (power), V14 VCCO_0 (power), V15 VCCBATT_0 (power), V16 VCCBRAM (power), V25 VCCO_DDR_502 (power), W4 MGTAVTT (power), W8 RSVDVCC1 (power), W22 VCCO_DDR_502 (power), Y2 MGTAVTT (power), Y6 MGTAVCC (power), Y19 VCCO_13 (power)
part M pins: A1 GND (power), A11 GND (power), A21 GND (power), AA3 GND (power), AA5 NC (hiz), AA6 NC (hiz), AA7 GND (power), AA9 GND (power), AA11 GND (power), AA21 GND (power), AB1 GND (power), AB5 GND (power), AB9 GND (power), AB18 GND (power), AC1 NC (hiz), AC2 NC (hiz), AC3 GND (power), AC5 NC (hiz), AC6 NC (hiz), AC7 GND (power), AC9 GND (power), AC15 GND (power), AC25 GND (power), AD1 GND (power), AD3 NC (hiz), AD4 NC (hiz), AD5 GND (power), AD7 NC (hiz), AD8 NC (hiz), AD9 GND (power), AD12 GND (power), AD22 GND (power), AE1 NC (hiz), AE2 NC (hiz), AE3 GND (power), AE5 NC (hiz), AE6 NC (hiz), AE7 GND (power), AE9 GND (power), AE19 GND (power), AF1 GND (power), AF3 NC (hiz), AF4 NC (hiz), AF5 GND (power), AF7 NC (hiz), AF8 NC (hiz), AF9 GND (power), AF16 GND (power), AF26 GND (power), B8 GND (power), B18 GND (power), C5 GND (power), C15 GND (power), C25 GND (power), D2 GND (power), D12 GND (power), D22 GND (power), E9 GND (power), E19 GND (power), F6 GND (power), F16 GND (power), F26 GND (power), G3 GND (power), G13 GND (power), G23 GND (power), H10 GND (power), H20 GND (power), J7 GND (power), J17 GND (power), K4 GND (power), K14 GND (power), K24 GND (power), L1 GND (power), L10 GND (power), L12 GND (power), L14 GND (power), L16 GND (power), L18 GND (power), L21 GND (power), M9 GND (power), M11 GND (power), M13 GNDADC_0 (power), M15 GND (power), M17 GND (power), M19 GND (power), N5 GND (power), N10 GND (power), N12 GND (power), N16 GND (power), N18 GND (power), N25 GND (power), P1 GND (power), P2 GND (power), P3 GND (power), P4 GND (power), P5 GND (power), P6 GND (power), P7 GND (power), P9 GND (power), P11 GND (power), P15 GND (power), P17 GND (power), P19 GND (power), P22 GND (power), R3 GND (power), R7 GND (power), R10 GND (power), R12 GND (power), R16 GND (power), R18 GND (power), T1 GND (power), T5 GND (power), T9 GND (power), T11 GND (power), T13 GND (power), T15 GND (power), T17 GND (power), T19 GND (power), T26 GND (power), U3 GND (power), U7 GND (power), U10 GND (power), U12 GND (power), U14 GND (power), U16 GND (power), U18 GND (power), U23 GND (power), V1 GND (power), V5 GND (power), V7 GND (power), V13 RSVDGND (power), V17 GND (power), V20 GND (power), W3 GND (power), W5 NC (hiz), W6 NC (hiz), W7 GND (power), Y1 GND (power), Y5 GND (power), Y7 GND (power), Y8 GND (power), Y9 GND (power), Y14 GND (power), Y24 GND (power)
part A text: Xilinx Zynq-7000 XC7Z030-2FF676I; BANK 0
part B text: Xilinx Zynq-7000 XC7Z030-2FF676I; BANK 12
part C text: Xilinx Zynq-7000 XC7Z030-2FF676I; BANK 13
part D text: Xilinx Zynq-7000 XC7Z030-2FF676I; BANK 33
part E text: Xilinx Zynq-7000 XC7Z030-2FF676I; BANK 34
part F text: Xilinx Zynq-7000 XC7Z030-2FF676I; BANK 35
part G text: Xilinx Zynq-7000 XC7Z030-2FF676I; BANK 112
part H text: Xilinx Zynq-7000 XC7Z030-2FF676I; BANK 500
part I text: Xilinx Zynq-7000 XC7Z030-2FF676I; BANK 501
part J text: Xilinx Zynq-7000 XC7Z030-2FF676I; BANK 502
part K text: Xilinx Zynq-7000 XC7Z030-2FF676I; BANK 502
part L text: PL/XADC Power; PS/MGTX Power; Xilinx Zynq-7000 XC7Z030-2FF676I; Power
part M text: Xilinx Zynq-7000 XC7Z030-2FF676I; Ground

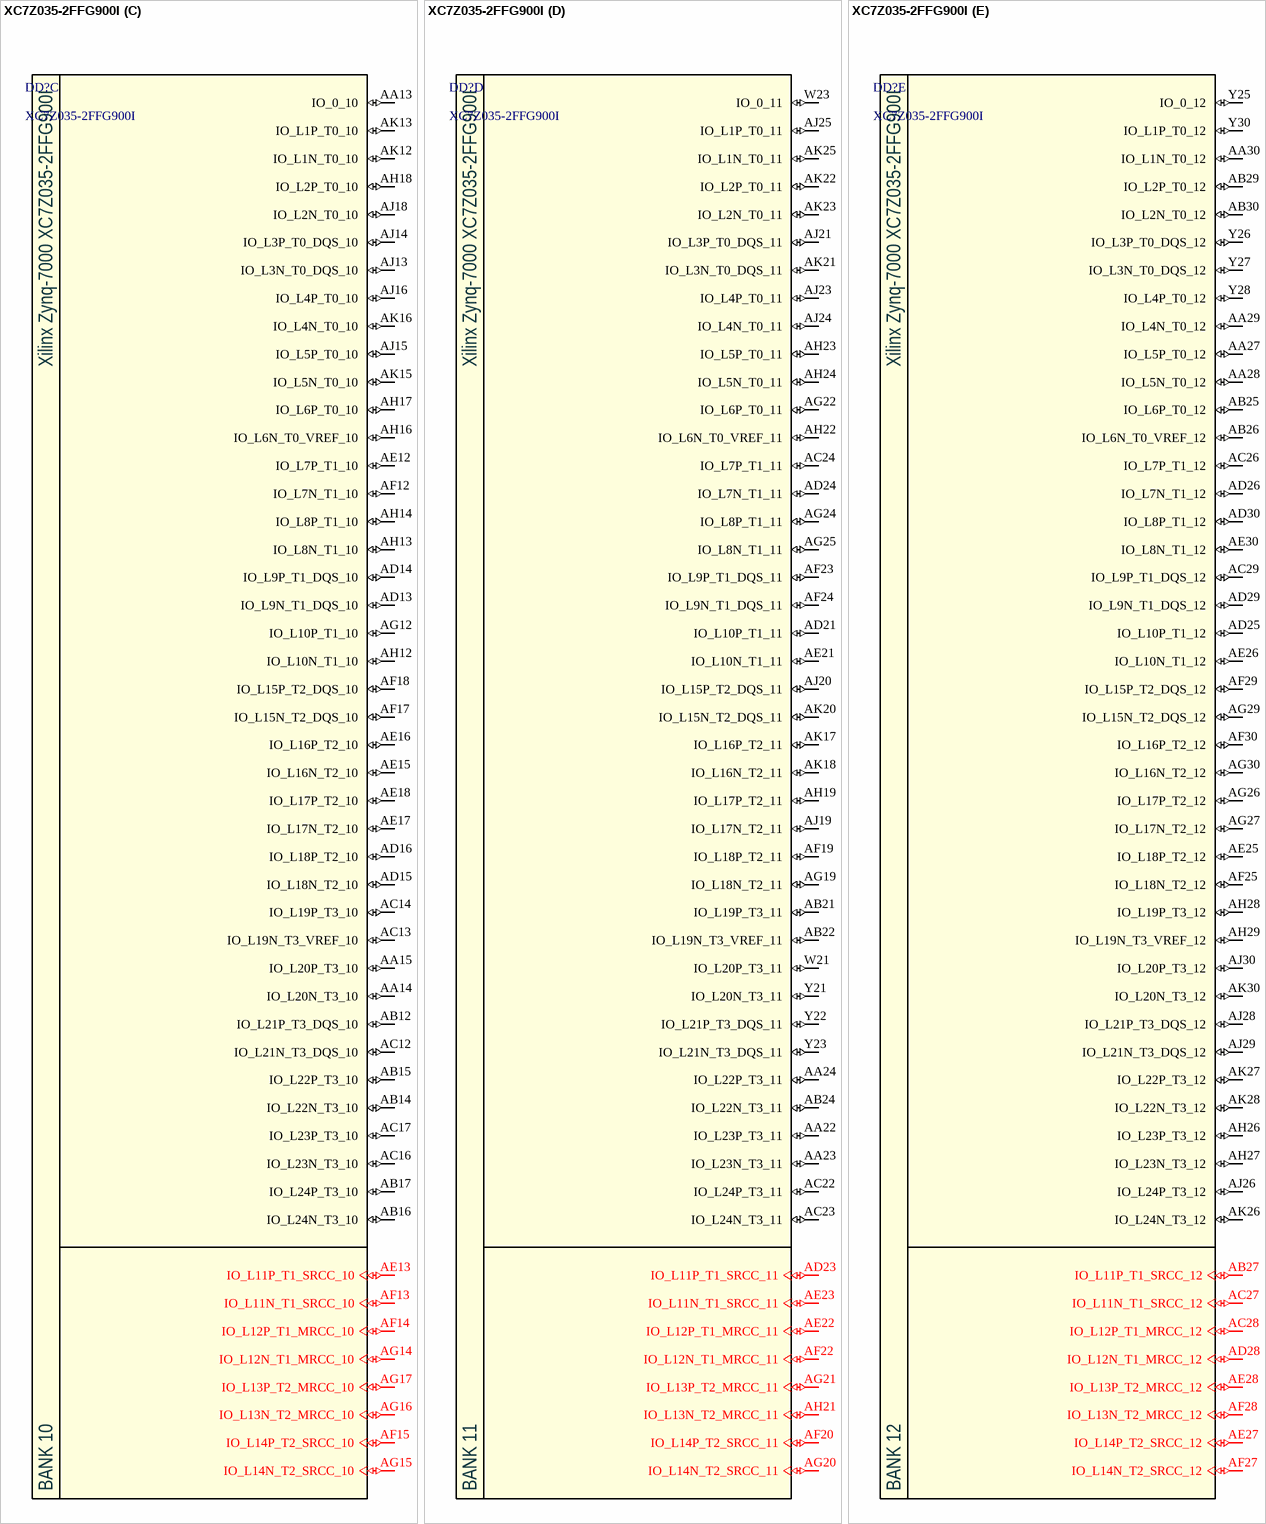
[diagram p36: symbol XC7Z035-2FFG900I]

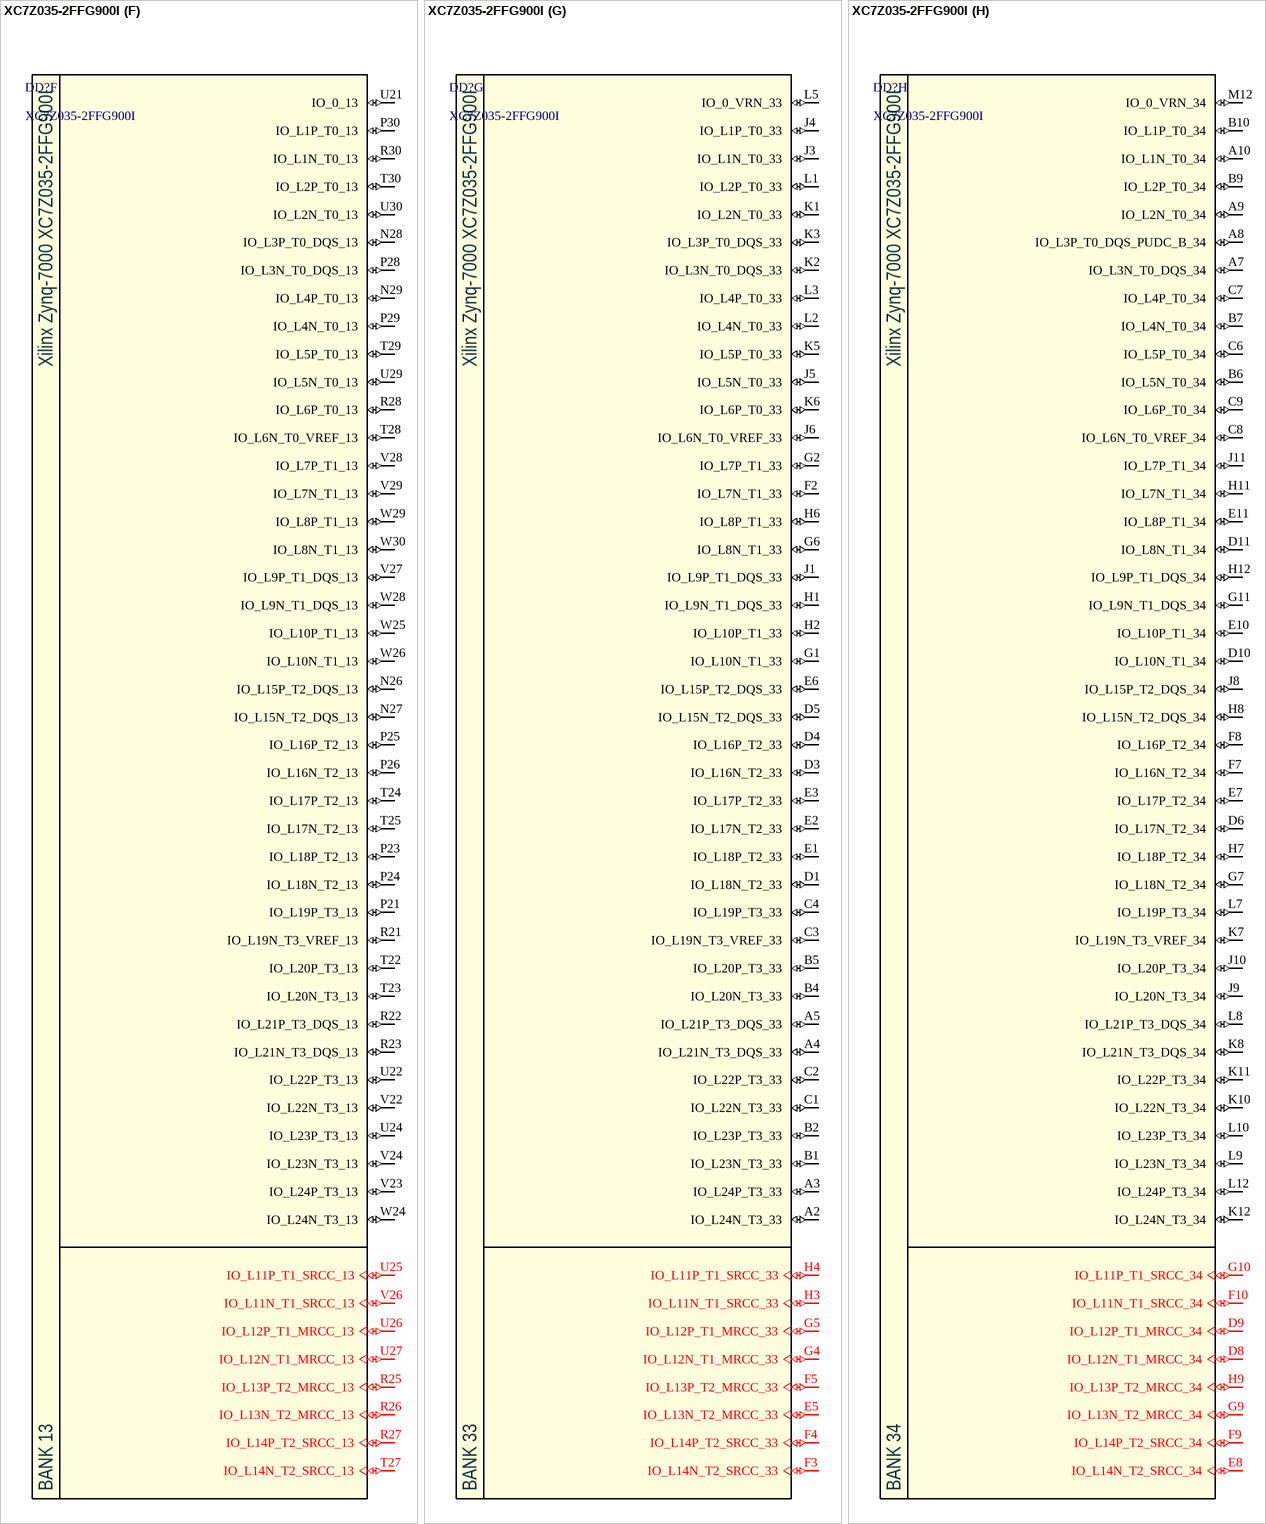
[diagram p37: symbol XC7Z035-2FFG900I]

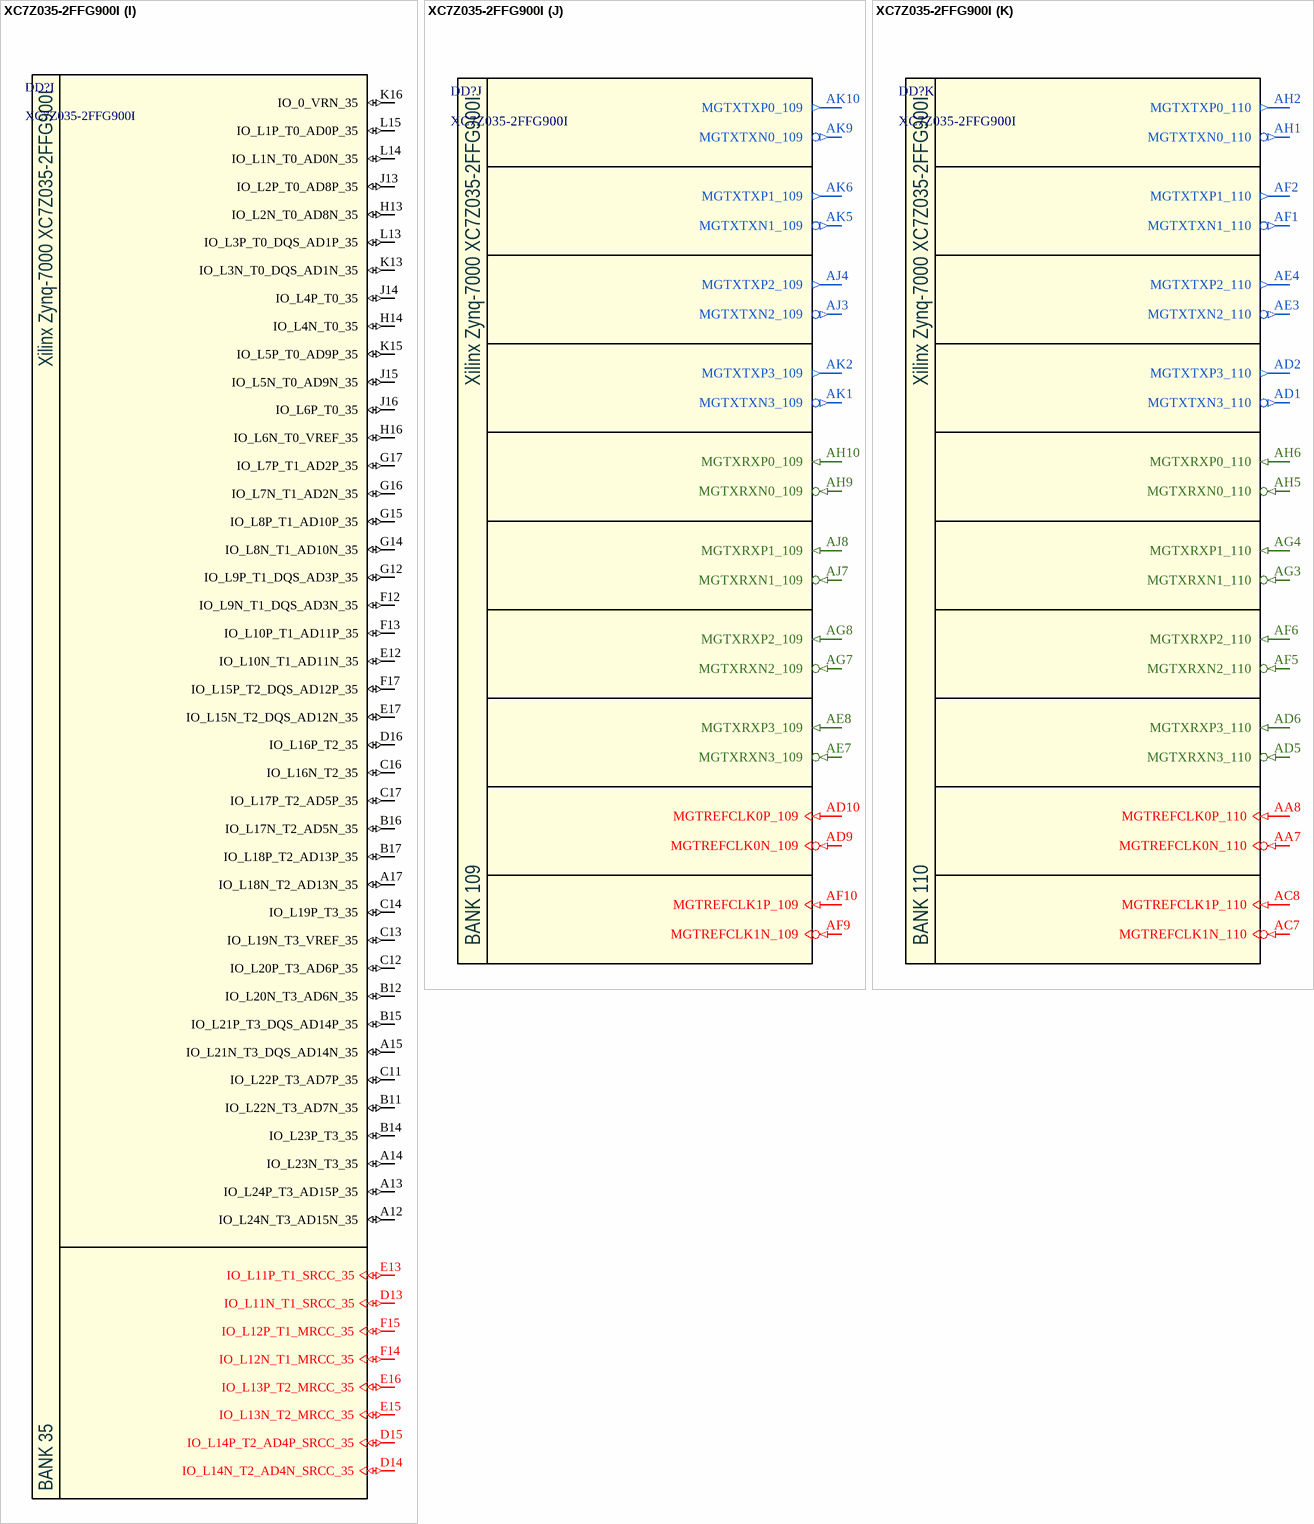
[diagram p38: symbol XC7Z035-2FFG900I]

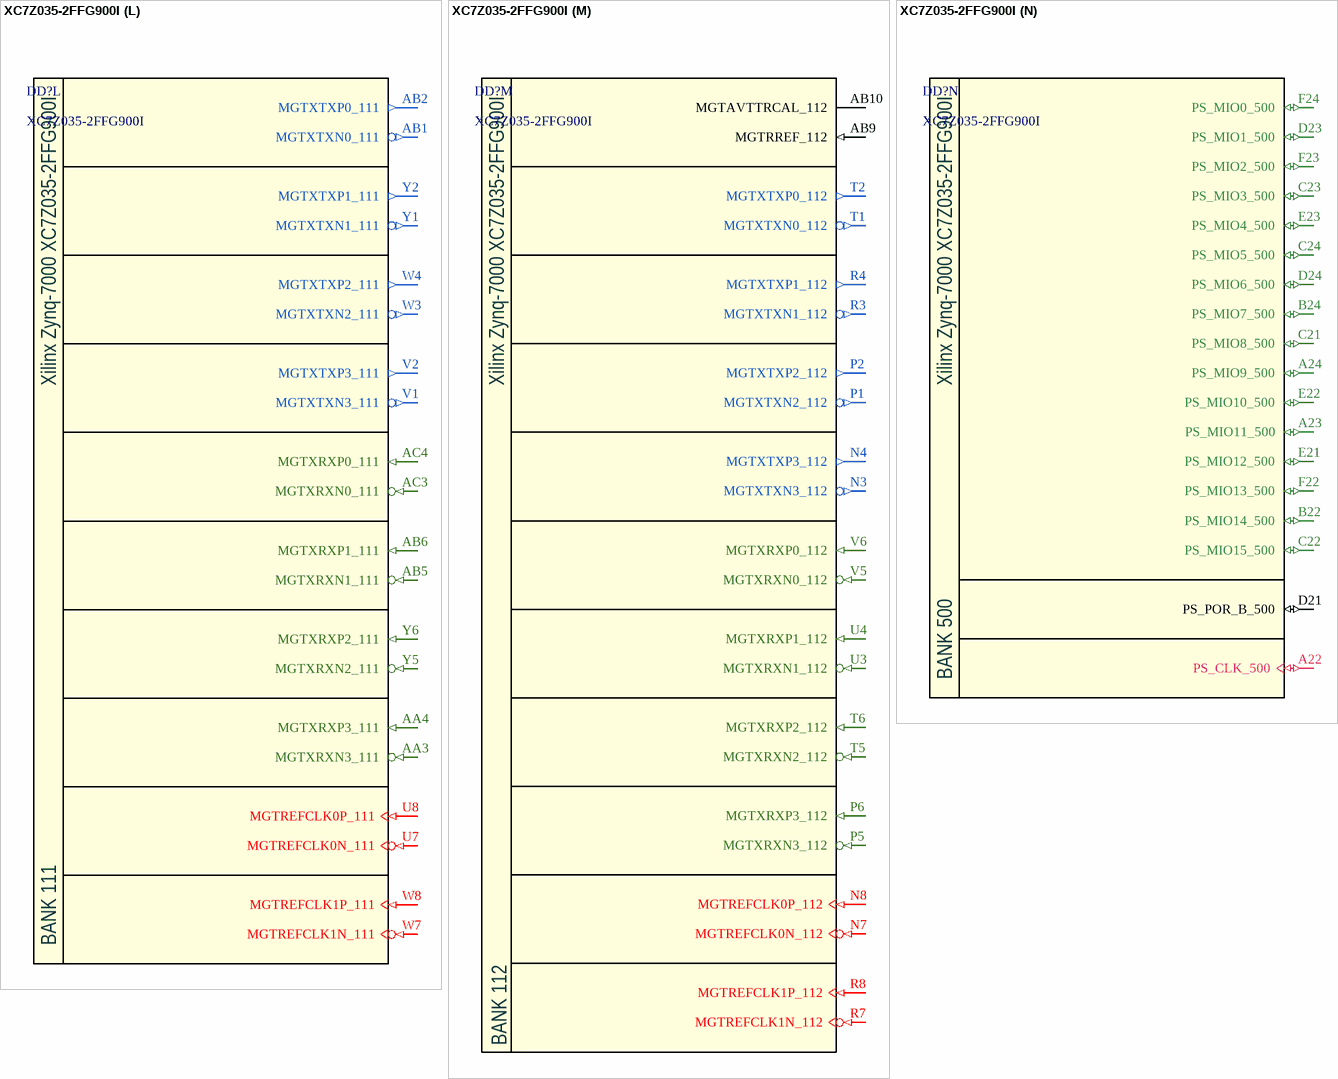
[diagram p39: symbol XC7Z035-2FFG900I]

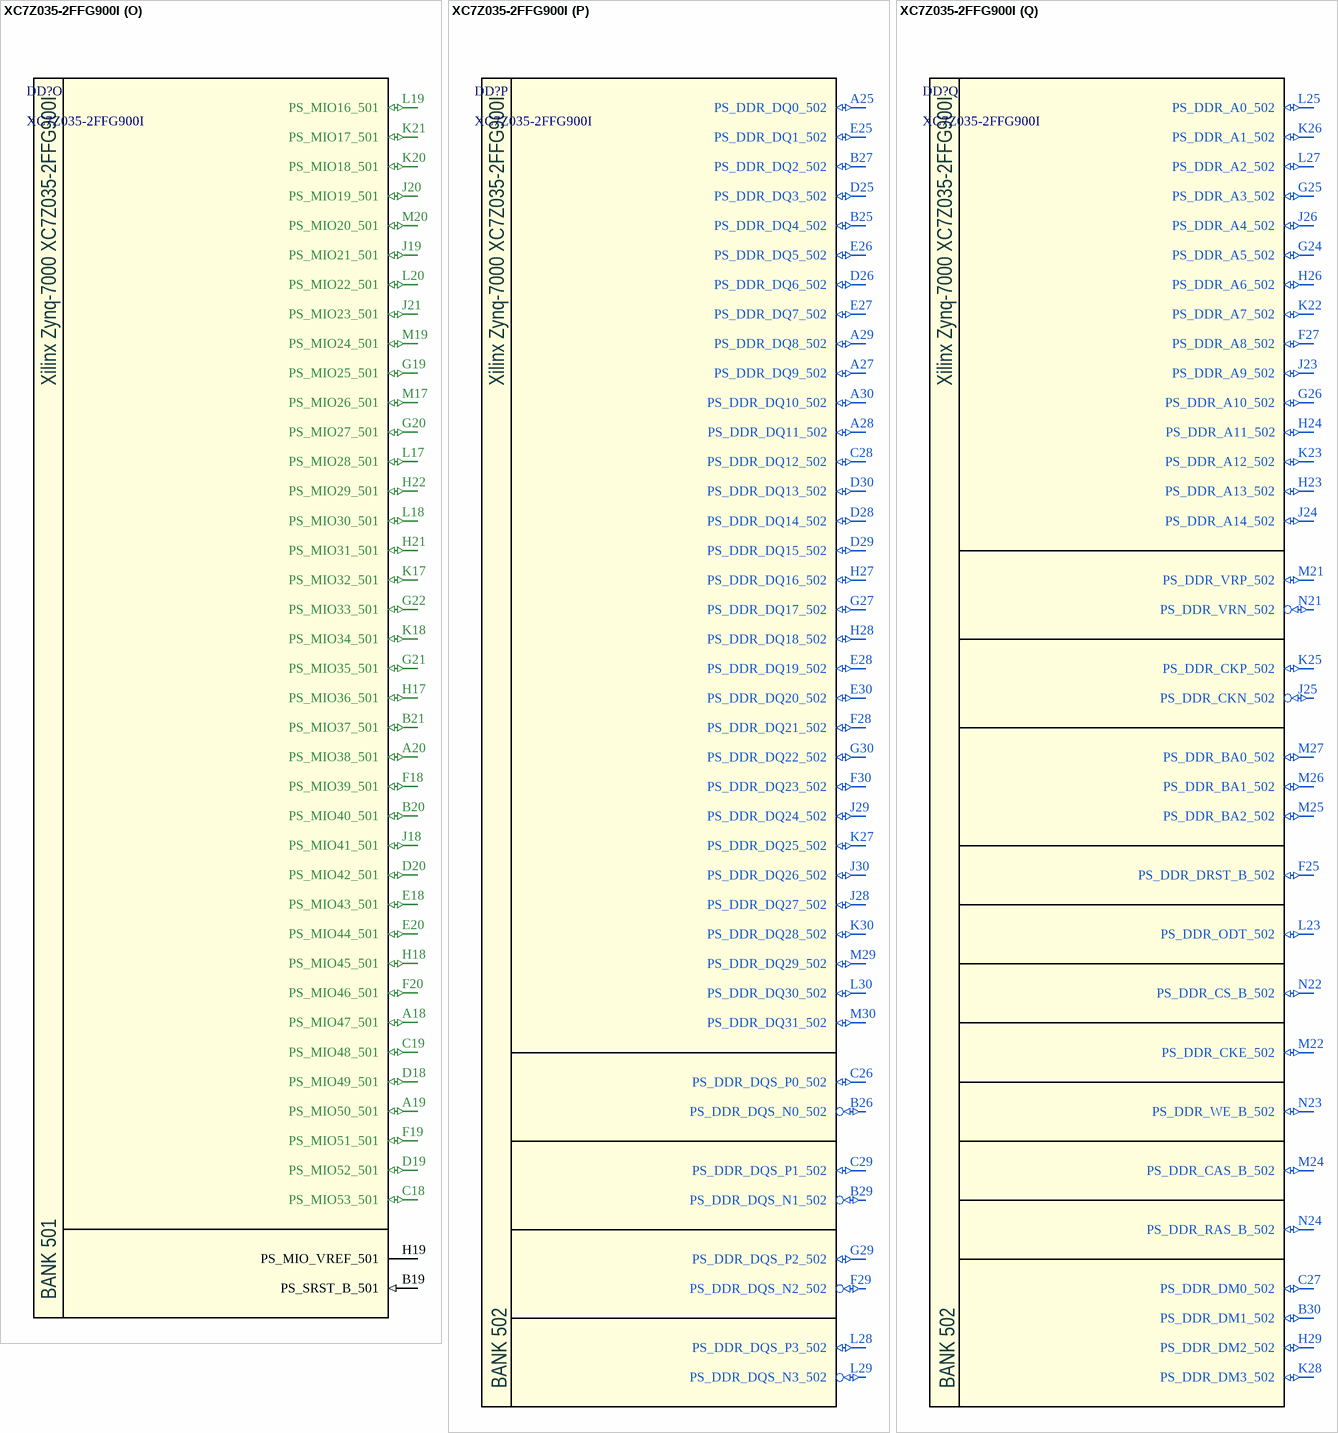
[diagram p40: symbol XC7Z035-2FFG900I]

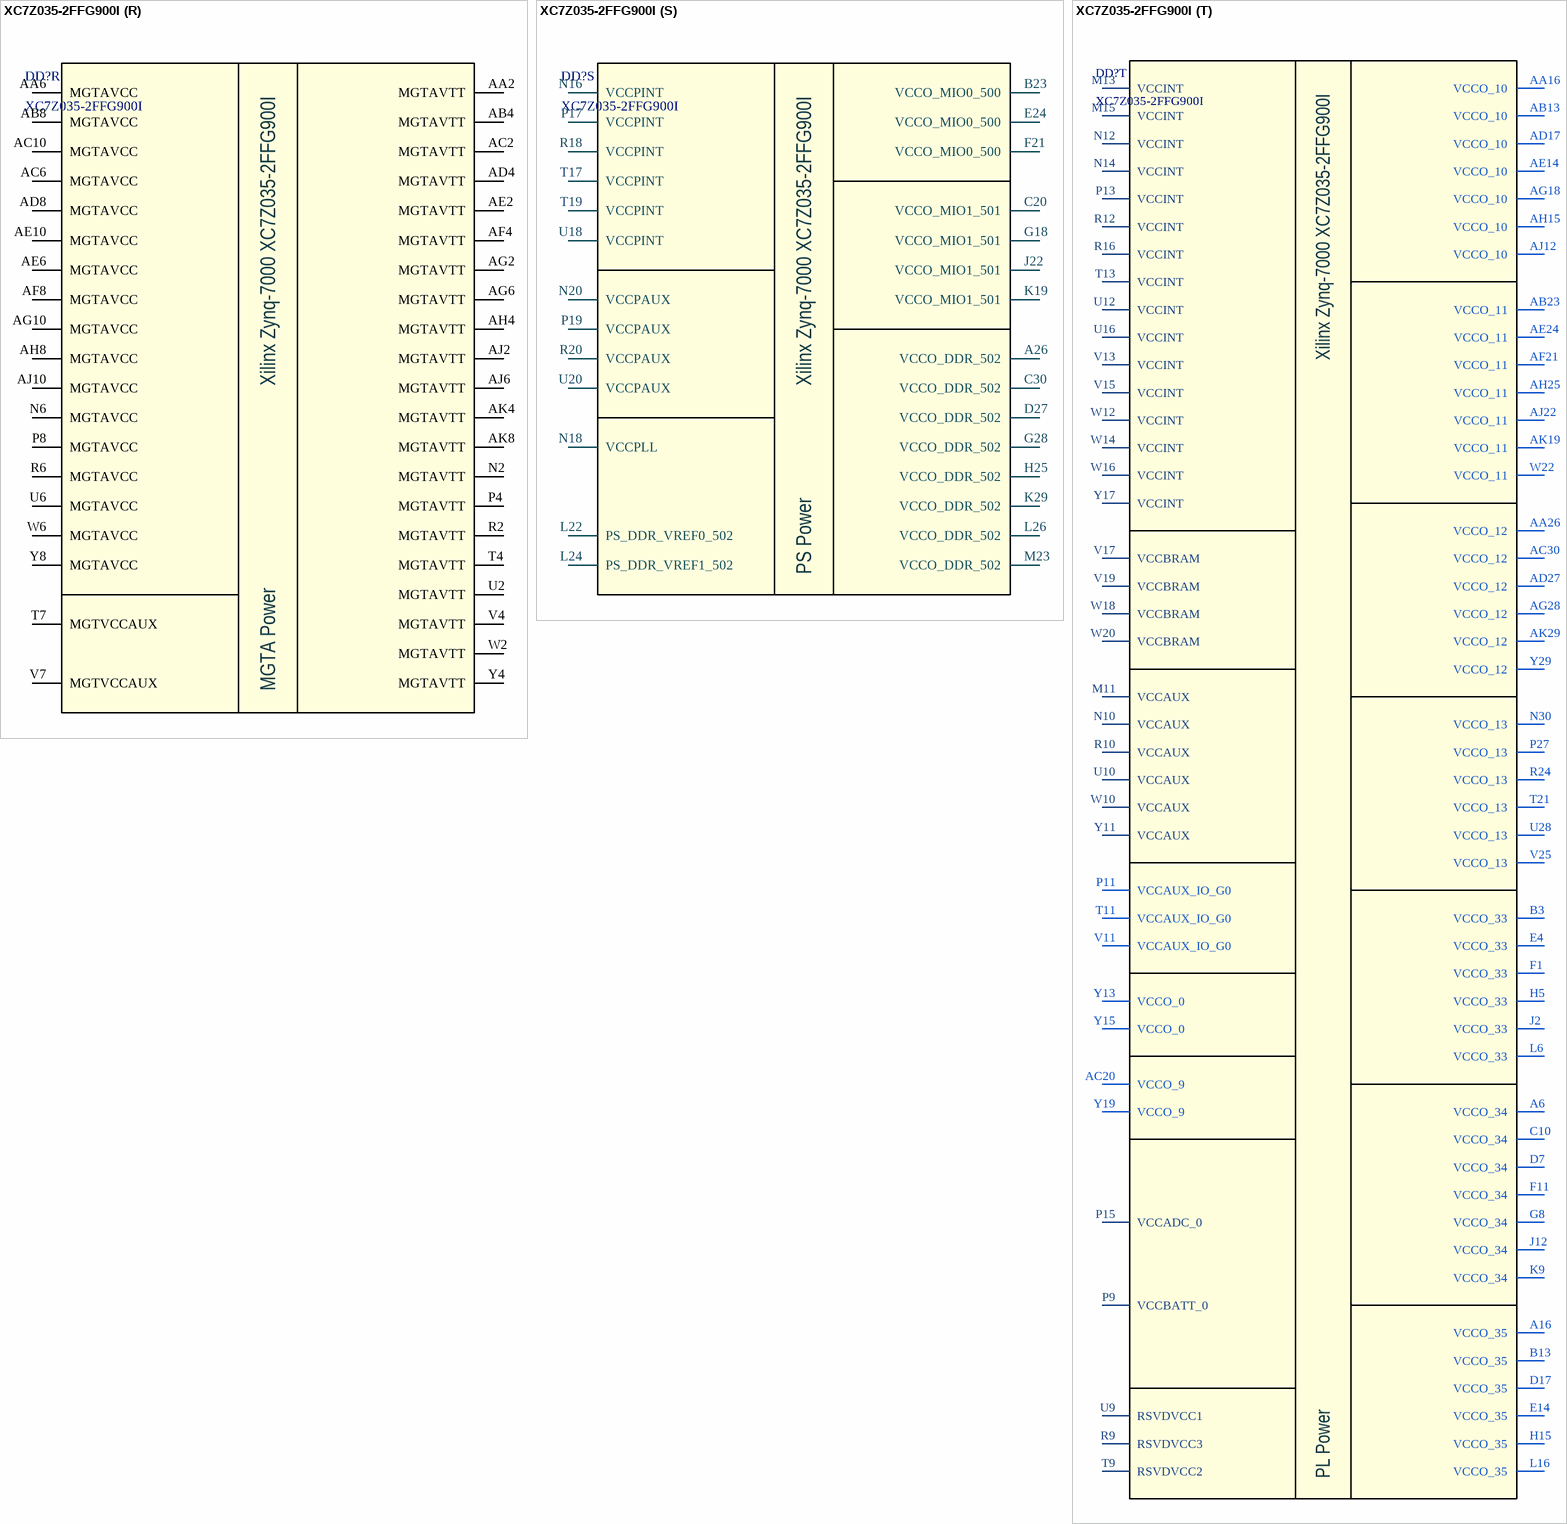
[diagram p41: symbol XC7Z035-2FFG900I]

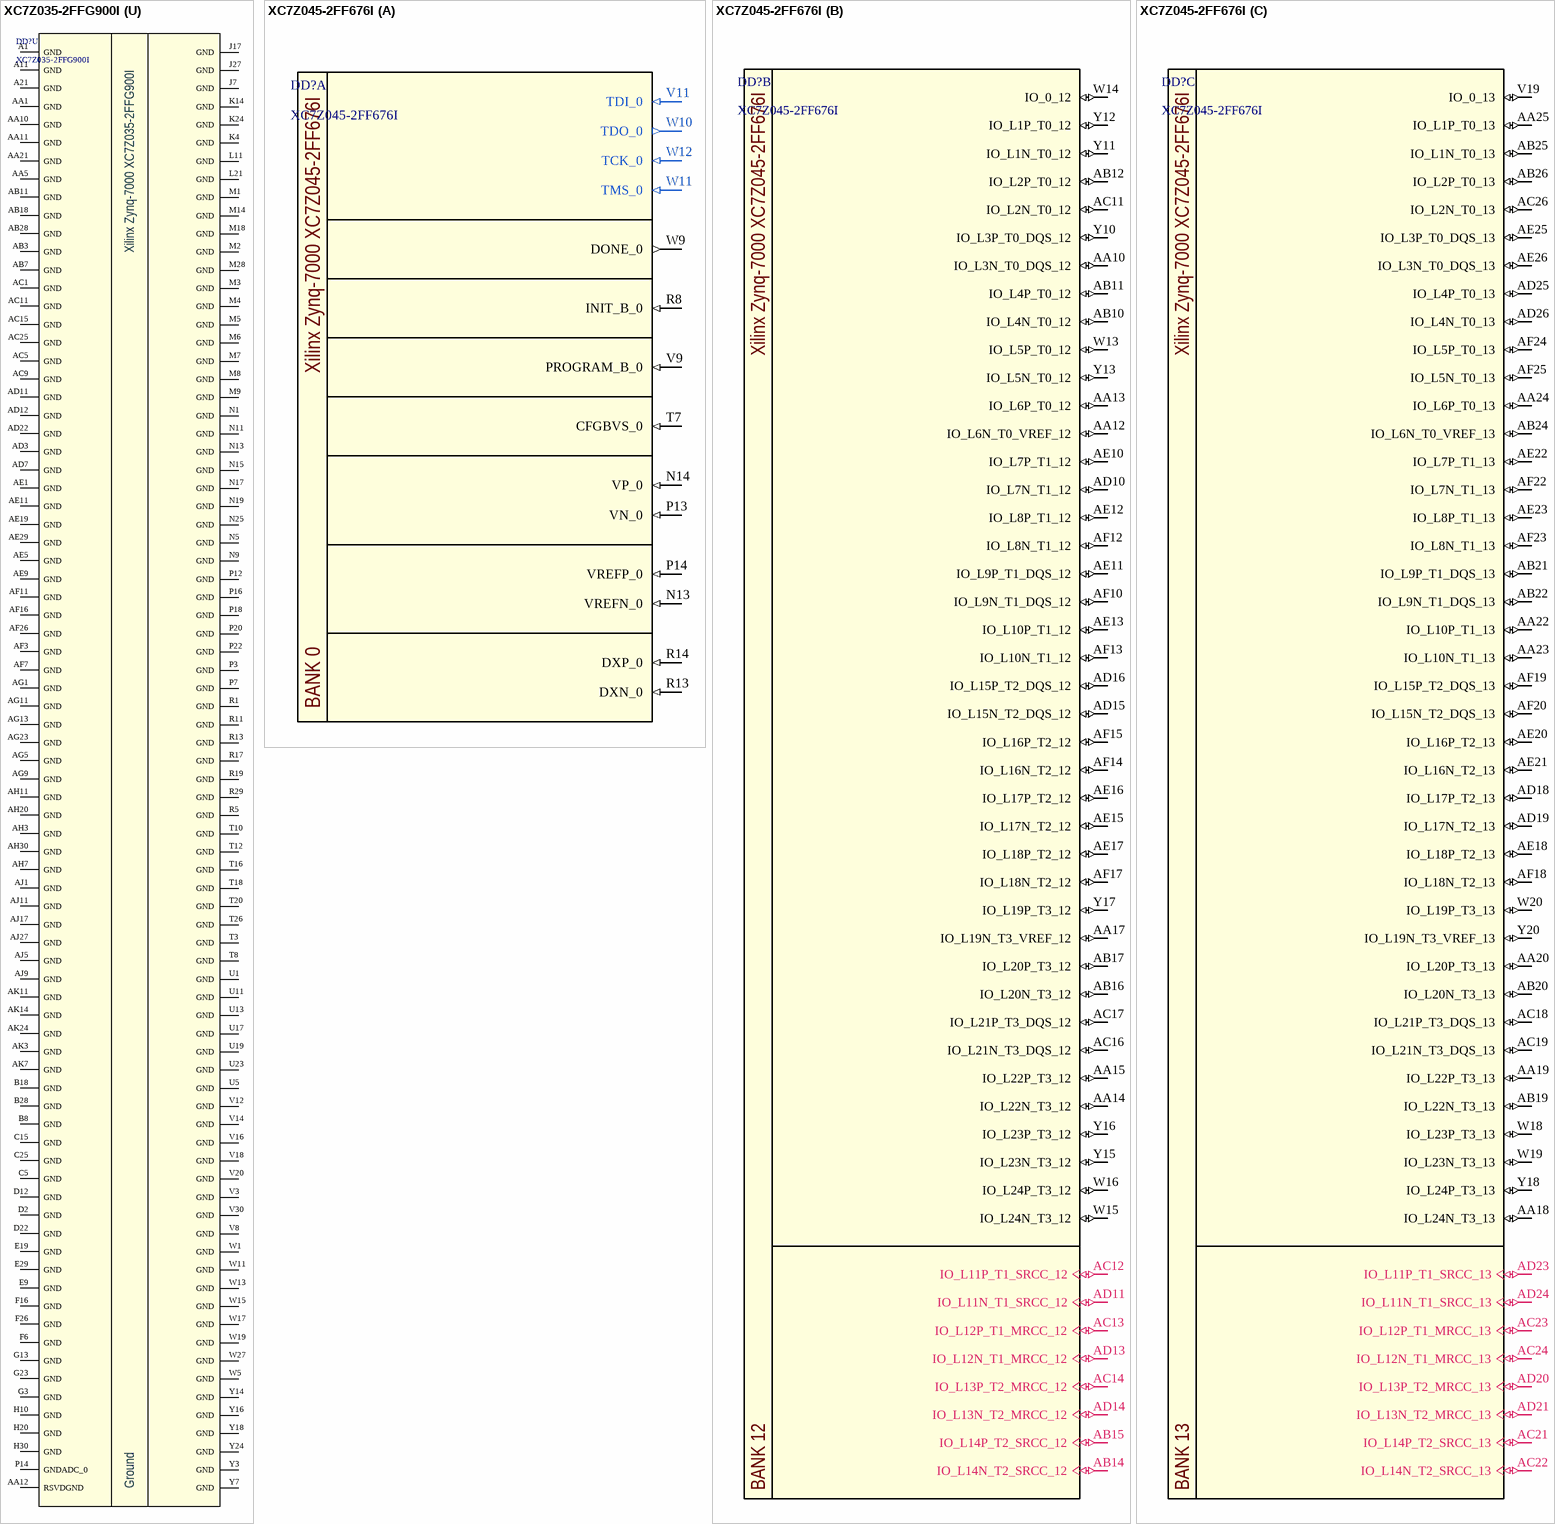
[diagram p42: symbols XC7Z035-2FFG900I to XC7Z045-2FF676I]

## XC7Z035-2FFG900I
designator DD?
Zynq-7000 Series SoC, Speed Grade 2, Industrial Grade; Manufacturer: Xilinx; Speed Grade: -2; PackageReference: FFG900; Part Number: XC7Z035-2FFG900I
footprint FFG900 (BGA, 900-Leads, Body 31,00x31,00mmx2,75mm, Pitch 1,00mm)
part A pins: AA9 DONE_0 (out), P10 TDI_0 (in), R14 VREFN_0 (in), R15 VP_0 (in), T14 VN_0 (in), T15 VREFP_0 (in), U14 DXN_0 (in), U15 DXP_0 (in), V9 CFGBVS_0 (in), V10 TMS_0 (in), W9 INIT_B_0 (in), Y9 PROGRAM_B_0 (in), Y10 TDO_0 (out), Y12 TCK_0 (in)
part B pins: AA18 IO_L13P_T2_MRCC_9 (io), AA19 IO_L13N_T2_MRCC_9 (io), AA20 IO_L6N_T0_VREF_9 (io), AB19 IO_L14P_T2_SRCC_9 (io), AB20 IO_L14N_T2_SRCC_9 (io), AC18 IO_L11P_T1_SRCC_9 (io), AC19 IO_L11N_T1_SRCC_9 (io), AD18 IO_L12P_T1_MRCC_9 (io), AD19 IO_L12N_T1_MRCC_9 (io), AD20 IO_L19P_T3_9 (io), AE20 IO_L19N_T3_VREF_9 (io), Y20 IO_L6P_T0_9 (io)
part C pins: AA13 IO_0_10 (io), AA14 IO_L20N_T3_10 (io), AA15 IO_L20P_T3_10 (io), AB12 IO_L21P_T3_DQS_10 (io), AB14 IO_L22N_T3_10 (io), AB15 IO_L22P_T3_10 (io), AB16 IO_L24N_T3_10 (io), AB17 IO_L24P_T3_10 (io), AC12 IO_L21N_T3_DQS_10 (io), AC13 IO_L19N_T3_VREF_10 (io), AC14 IO_L19P_T3_10 (io), AC16 IO_L23N_T3_10 (io), AC17 IO_L23P_T3_10 (io), AD13 IO_L9N_T1_DQS_10 (io), AD14 IO_L9P_T1_DQS_10 (io), AD15 IO_L18N_T2_10 (io), AD16 IO_L18P_T2_10 (io), AE12 IO_L7P_T1_10 (io), AE13 IO_L11P_T1_SRCC_10 (io), AE15 IO_L16N_T2_10 (io), AE16 IO_L16P_T2_10 (io), AE17 IO_L17N_T2_10 (io), AE18 IO_L17P_T2_10 (io), AF12 IO_L7N_T1_10 (io), AF13 IO_L11N_T1_SRCC_10 (io), AF14 IO_L12P_T1_MRCC_10 (io), AF15 IO_L14P_T2_SRCC_10 (io), AF17 IO_L15N_T2_DQS_10 (io), AF18 IO_L15P_T2_DQS_10 (io), AG12 IO_L10P_T1_10 (io), AG14 IO_L12N_T1_MRCC_10 (io), AG15 IO_L14N_T2_SRCC_10 (io), AG16 IO_L13N_T2_MRCC_10 (io), AG17 IO_L13P_T2_MRCC_10 (io), AH12 IO_L10N_T1_10 (io), AH13 IO_L8N_T1_10 (io), AH14 IO_L8P_T1_10 (io), AH16 IO_L6N_T0_VREF_10 (io), AH17 IO_L6P_T0_10 (io), AH18 IO_L2P_T0_10 (io), AJ13 IO_L3N_T0_DQS_10 (io), AJ14 IO_L3P_T0_DQS_10 (io), AJ15 IO_L5P_T0_10 (io), AJ16 IO_L4P_T0_10 (io), AJ18 IO_L2N_T0_10 (io), AK12 IO_L1N_T0_10 (io), AK13 IO_L1P_T0_10 (io), AK15 IO_L5N_T0_10 (io), AK16 IO_L4N_T0_10 (io)
part D pins: AA22 IO_L23P_T3_11 (io), AA23 IO_L23N_T3_11 (io), AA24 IO_L22P_T3_11 (io), AB21 IO_L19P_T3_11 (io), AB22 IO_L19N_T3_VREF_11 (io), AB24 IO_L22N_T3_11 (io), AC22 IO_L24P_T3_11 (io), AC23 IO_L24N_T3_11 (io), AC24 IO_L7P_T1_11 (io), AD21 IO_L10P_T1_11 (io), AD23 IO_L11P_T1_SRCC_11 (io), AD24 IO_L7N_T1_11 (io), AE21 IO_L10N_T1_11 (io), AE22 IO_L12P_T1_MRCC_11 (io), AE23 IO_L11N_T1_SRCC_11 (io), AF19 IO_L18P_T2_11 (io), AF20 IO_L14P_T2_SRCC_11 (io), AF22 IO_L12N_T1_MRCC_11 (io), AF23 IO_L9P_T1_DQS_11 (io), AF24 IO_L9N_T1_DQS_11 (io), AG19 IO_L18N_T2_11 (io), AG20 IO_L14N_T2_SRCC_11 (io), AG21 IO_L13P_T2_MRCC_11 (io), AG22 IO_L6P_T0_11 (io), AG24 IO_L8P_T1_11 (io), AG25 IO_L8N_T1_11 (io), AH19 IO_L17P_T2_11 (io), AH21 IO_L13N_T2_MRCC_11 (io), AH22 IO_L6N_T0_VREF_11 (io), AH23 IO_L5P_T0_11 (io), AH24 IO_L5N_T0_11 (io), AJ19 IO_L17N_T2_11 (io), AJ20 IO_L15P_T2_DQS_11 (io), AJ21 IO_L3P_T0_DQS_11 (io), AJ23 IO_L4P_T0_11 (io), AJ24 IO_L4N_T0_11 (io), AJ25 IO_L1P_T0_11 (io), AK17 IO_L16P_T2_11 (io), AK18 IO_L16N_T2_11 (io), AK20 IO_L15N_T2_DQS_11 (io), AK21 IO_L3N_T0_DQS_11 (io), AK22 IO_L2P_T0_11 (io), AK23 IO_L2N_T0_11 (io), AK25 IO_L1N_T0_11 (io), W21 IO_L20P_T3_11 (io), W23 IO_0_11 (io), Y21 IO_L20N_T3_11 (io), Y22 IO_L21P_T3_DQS_11 (io), Y23 IO_L21N_T3_DQS_11 (io)
part E pins: AA27 IO_L5P_T0_12 (io), AA28 IO_L5N_T0_12 (io), AA29 IO_L4N_T0_12 (io), AA30 IO_L1N_T0_12 (io), AB25 IO_L6P_T0_12 (io), AB26 IO_L6N_T0_VREF_12 (io), AB27 IO_L11P_T1_SRCC_12 (io), AB29 IO_L2P_T0_12 (io), AB30 IO_L2N_T0_12 (io), AC26 IO_L7P_T1_12 (io), AC27 IO_L11N_T1_SRCC_12 (io), AC28 IO_L12P_T1_MRCC_12 (io), AC29 IO_L9P_T1_DQS_12 (io), AD25 IO_L10P_T1_12 (io), AD26 IO_L7N_T1_12 (io), AD28 IO_L12N_T1_MRCC_12 (io), AD29 IO_L9N_T1_DQS_12 (io), AD30 IO_L8P_T1_12 (io), AE25 IO_L18P_T2_12 (io), AE26 IO_L10N_T1_12 (io), AE27 IO_L14P_T2_SRCC_12 (io), AE28 IO_L13P_T2_MRCC_12 (io), AE30 IO_L8N_T1_12 (io), AF25 IO_L18N_T2_12 (io), AF27 IO_L14N_T2_SRCC_12 (io), AF28 IO_L13N_T2_MRCC_12 (io), AF29 IO_L15P_T2_DQS_12 (io), AF30 IO_L16P_T2_12 (io), AG26 IO_L17P_T2_12 (io), AG27 IO_L17N_T2_12 (io), AG29 IO_L15N_T2_DQS_12 (io), AG30 IO_L16N_T2_12 (io), AH26 IO_L23P_T3_12 (io), AH27 IO_L23N_T3_12 (io), AH28 IO_L19P_T3_12 (io), AH29 IO_L19N_T3_VREF_12 (io), AJ26 IO_L24P_T3_12 (io), AJ28 IO_L21P_T3_DQS_12 (io), AJ29 IO_L21N_T3_DQS_12 (io), AJ30 IO_L20P_T3_12 (io), AK26 IO_L24N_T3_12 (io), AK27 IO_L22P_T3_12 (io), AK28 IO_L22N_T3_12 (io), AK30 IO_L20N_T3_12 (io), Y25 IO_0_12 (io), Y26 IO_L3P_T0_DQS_12 (io), Y27 IO_L3N_T0_DQS_12 (io), Y28 IO_L4P_T0_12 (io), Y30 IO_L1P_T0_12 (io)
part F pins: N26 IO_L15P_T2_DQS_13 (io), N27 IO_L15N_T2_DQS_13 (io), N28 IO_L3P_T0_DQS_13 (io), N29 IO_L4P_T0_13 (io), P21 IO_L19P_T3_13 (io), P23 IO_L18P_T2_13 (io), P24 IO_L18N_T2_13 (io), P25 IO_L16P_T2_13 (io), P26 IO_L16N_T2_13 (io), P28 IO_L3N_T0_DQS_13 (io), P29 IO_L4N_T0_13 (io), P30 IO_L1P_T0_13 (io), R21 IO_L19N_T3_VREF_13 (io), R22 IO_L21P_T3_DQS_13 (io), R23 IO_L21N_T3_DQS_13 (io), R25 IO_L13P_T2_MRCC_13 (io), R26 IO_L13N_T2_MRCC_13 (io), R27 IO_L14P_T2_SRCC_13 (io), R28 IO_L6P_T0_13 (io), R30 IO_L1N_T0_13 (io), T22 IO_L20P_T3_13 (io), T23 IO_L20N_T3_13 (io), T24 IO_L17P_T2_13 (io), T25 IO_L17N_T2_13 (io), T27 IO_L14N_T2_SRCC_13 (io), T28 IO_L6N_T0_VREF_13 (io), T29 IO_L5P_T0_13 (io), T30 IO_L2P_T0_13 (io), U21 IO_0_13 (io), U22 IO_L22P_T3_13 (io), U24 IO_L23P_T3_13 (io), U25 IO_L11P_T1_SRCC_13 (io), U26 IO_L12P_T1_MRCC_13 (io), U27 IO_L12N_T1_MRCC_13 (io), U29 IO_L5N_T0_13 (io), U30 IO_L2N_T0_13 (io), V22 IO_L22N_T3_13 (io), V23 IO_L24P_T3_13 (io), V24 IO_L23N_T3_13 (io), V26 IO_L11N_T1_SRCC_13 (io), V27 IO_L9P_T1_DQS_13 (io), V28 IO_L7P_T1_13 (io), V29 IO_L7N_T1_13 (io), W24 IO_L24N_T3_13 (io), W25 IO_L10P_T1_13 (io), W26 IO_L10N_T1_13 (io), W28 IO_L9N_T1_DQS_13 (io), W29 IO_L8P_T1_13 (io), W30 IO_L8N_T1_13 (io)
part G pins: A2 IO_L24N_T3_33 (io), A3 IO_L24P_T3_33 (io), A4 IO_L21N_T3_DQS_33 (io), A5 IO_L21P_T3_DQS_33 (io), B1 IO_L23N_T3_33 (io), B2 IO_L23P_T3_33 (io), B4 IO_L20N_T3_33 (io), B5 IO_L20P_T3_33 (io), C1 IO_L22N_T3_33 (io), C2 IO_L22P_T3_33 (io), C3 IO_L19N_T3_VREF_33 (io), C4 IO_L19P_T3_33 (io), D1 IO_L18N_T2_33 (io), D3 IO_L16N_T2_33 (io), D4 IO_L16P_T2_33 (io), D5 IO_L15N_T2_DQS_33 (io), E1 IO_L18P_T2_33 (io), E2 IO_L17N_T2_33 (io), E3 IO_L17P_T2_33 (io), E5 IO_L13N_T2_MRCC_33 (io), E6 IO_L15P_T2_DQS_33 (io), F2 IO_L7N_T1_33 (io), F3 IO_L14N_T2_SRCC_33 (io), F4 IO_L14P_T2_SRCC_33 (io), F5 IO_L13P_T2_MRCC_33 (io), G1 IO_L10N_T1_33 (io), G2 IO_L7P_T1_33 (io), G4 IO_L12N_T1_MRCC_33 (io), G5 IO_L12P_T1_MRCC_33 (io), G6 IO_L8N_T1_33 (io), H1 IO_L9N_T1_DQS_33 (io), H2 IO_L10P_T1_33 (io), H3 IO_L11N_T1_SRCC_33 (io), H4 IO_L11P_T1_SRCC_33 (io), H6 IO_L8P_T1_33 (io), J1 IO_L9P_T1_DQS_33 (io), J3 IO_L1N_T0_33 (io), J4 IO_L1P_T0_33 (io), J5 IO_L5N_T0_33 (io), J6 IO_L6N_T0_VREF_33 (io), K1 IO_L2N_T0_33 (io), K2 IO_L3N_T0_DQS_33 (io), K3 IO_L3P_T0_DQS_33 (io), K5 IO_L5P_T0_33 (io), K6 IO_L6P_T0_33 (io), L1 IO_L2P_T0_33 (io), L2 IO_L4N_T0_33 (io), L3 IO_L4P_T0_33 (io), L5 IO_0_VRN_33 (io)
part H pins: A7 IO_L3N_T0_DQS_34 (io), A8 IO_L3P_T0_DQS_PUDC_B_34 (io), A9 IO_L2N_T0_34 (io), A10 IO_L1N_T0_34 (io), B6 IO_L5N_T0_34 (io), B7 IO_L4N_T0_34 (io), B9 IO_L2P_T0_34 (io), B10 IO_L1P_T0_34 (io), C6 IO_L5P_T0_34 (io), C7 IO_L4P_T0_34 (io), C8 IO_L6N_T0_VREF_34 (io), C9 IO_L6P_T0_34 (io), D6 IO_L17N_T2_34 (io), D8 IO_L12N_T1_MRCC_34 (io), D9 IO_L12P_T1_MRCC_34 (io), D10 IO_L10N_T1_34 (io), D11 IO_L8N_T1_34 (io), E7 IO_L17P_T2_34 (io), E8 IO_L14N_T2_SRCC_34 (io), E10 IO_L10P_T1_34 (io), E11 IO_L8P_T1_34 (io), F7 IO_L16N_T2_34 (io), F8 IO_L16P_T2_34 (io), F9 IO_L14P_T2_SRCC_34 (io), F10 IO_L11N_T1_SRCC_34 (io), G7 IO_L18N_T2_34 (io), G9 IO_L13N_T2_MRCC_34 (io), G10 IO_L11P_T1_SRCC_34 (io), G11 IO_L9N_T1_DQS_34 (io), H7 IO_L18P_T2_34 (io), H8 IO_L15N_T2_DQS_34 (io), H9 IO_L13P_T2_MRCC_34 (io), H11 IO_L7N_T1_34 (io), H12 IO_L9P_T1_DQS_34 (io), J8 IO_L15P_T2_DQS_34 (io), J9 IO_L20N_T3_34 (io), J10 IO_L20P_T3_34 (io), J11 IO_L7P_T1_34 (io), K7 IO_L19N_T3_VREF_34 (io), K8 IO_L21N_T3_DQS_34 (io), K10 IO_L22N_T3_34 (io), K11 IO_L22P_T3_34 (io), K12 IO_L24N_T3_34 (io), L7 IO_L19P_T3_34 (io), L8 IO_L21P_T3_DQS_34 (io), L9 IO_L23N_T3_34 (io), L10 IO_L23P_T3_34 (io), L12 IO_L24P_T3_34 (io), M12 IO_0_VRN_34 (io)
part I pins: A12 IO_L24N_T3_AD15N_35 (io), A13 IO_L24P_T3_AD15P_35 (io), A14 IO_L23N_T3_35 (io), A15 IO_L21N_T3_DQS_AD14N_35 (io), A17 IO_L18N_T2_AD13N_35 (io), B11 IO_L22N_T3_AD7N_35 (io), B12 IO_L20N_T3_AD6N_35 (io), B14 IO_L23P_T3_35 (io), B15 IO_L21P_T3_DQS_AD14P_35 (io), B16 IO_L17N_T2_AD5N_35 (io), B17 IO_L18P_T2_AD13P_35 (io), C11 IO_L22P_T3_AD7P_35 (io), C12 IO_L20P_T3_AD6P_35 (io), C13 IO_L19N_T3_VREF_35 (io), C14 IO_L19P_T3_35 (io), C16 IO_L16N_T2_35 (io), C17 IO_L17P_T2_AD5P_35 (io), D13 IO_L11N_T1_SRCC_35 (io), D14 IO_L14N_T2_AD4N_SRCC_35 (io), D15 IO_L14P_T2_AD4P_SRCC_35 (io), D16 IO_L16P_T2_35 (io), E12 IO_L10N_T1_AD11N_35 (io), E13 IO_L11P_T1_SRCC_35 (io), E15 IO_L13N_T2_MRCC_35 (io), E16 IO_L13P_T2_MRCC_35 (io), E17 IO_L15N_T2_DQS_AD12N_35 (io), F12 IO_L9N_T1_DQS_AD3N_35 (io), F13 IO_L10P_T1_AD11P_35 (io), F14 IO_L12N_T1_MRCC_35 (io), F15 IO_L12P_T1_MRCC_35 (io), F17 IO_L15P_T2_DQS_AD12P_35 (io), G12 IO_L9P_T1_DQS_AD3P_35 (io), G14 IO_L8N_T1_AD10N_35 (io), G15 IO_L8P_T1_AD10P_35 (io), G16 IO_L7N_T1_AD2N_35 (io), G17 IO_L7P_T1_AD2P_35 (io), H13 IO_L2N_T0_AD8N_35 (io), H14 IO_L4N_T0_35 (io), H16 IO_L6N_T0_VREF_35 (io), J13 IO_L2P_T0_AD8P_35 (io), J14 IO_L4P_T0_35 (io), J15 IO_L5N_T0_AD9N_35 (io), J16 IO_L6P_T0_35 (io), K13 IO_L3N_T0_DQS_AD1N_35 (io), K15 IO_L5P_T0_AD9P_35 (io), K16 IO_0_VRN_35 (io), L13 IO_L3P_T0_DQS_AD1P_35 (io), L14 IO_L1N_T0_AD0N_35 (io), L15 IO_L1P_T0_AD0P_35 (io)
part J pins: AD9 MGTREFCLK0N_109 (in), AD10 MGTREFCLK0P_109 (in), AE7 MGTXRXN3_109 (in), AE8 MGTXRXP3_109 (in), AF9 MGTREFCLK1N_109 (in), AF10 MGTREFCLK1P_109 (in), AG7 MGTXRXN2_109 (in), AG8 MGTXRXP2_109 (in), AH9 MGTXRXN0_109 (in), AH10 MGTXRXP0_109 (in), AJ3 MGTXTXN2_109 (out), AJ4 MGTXTXP2_109 (out), AJ7 MGTXRXN1_109 (in), AJ8 MGTXRXP1_109 (in), AK1 MGTXTXN3_109 (out), AK2 MGTXTXP3_109 (out), AK5 MGTXTXN1_109 (out), AK6 MGTXTXP1_109 (out), AK9 MGTXTXN0_109 (out), AK10 MGTXTXP0_109 (out)
part K pins: AA7 MGTREFCLK0N_110 (in), AA8 MGTREFCLK0P_110 (in), AC7 MGTREFCLK1N_110 (in), AC8 MGTREFCLK1P_110 (in), AD1 MGTXTXN3_110 (out), AD2 MGTXTXP3_110 (out), AD5 MGTXRXN3_110 (in), AD6 MGTXRXP3_110 (in), AE3 MGTXTXN2_110 (out), AE4 MGTXTXP2_110 (out), AF1 MGTXTXN1_110 (out), AF2 MGTXTXP1_110 (out), AF5 MGTXRXN2_110 (in), AF6 MGTXRXP2_110 (in), AG3 MGTXRXN1_110 (in), AG4 MGTXRXP1_110 (in), AH1 MGTXTXN0_110 (out), AH2 MGTXTXP0_110 (out), AH5 MGTXRXN0_110 (in), AH6 MGTXRXP0_110 (in)
part L pins: AA3 MGTXRXN3_111 (in), AA4 MGTXRXP3_111 (in), AB1 MGTXTXN0_111 (out), AB2 MGTXTXP0_111 (out), AB5 MGTXRXN1_111 (in), AB6 MGTXRXP1_111 (in), AC3 MGTXRXN0_111 (in), AC4 MGTXRXP0_111 (in), U7 MGTREFCLK0N_111 (in), U8 MGTREFCLK0P_111 (in), V1 MGTXTXN3_111 (out), V2 MGTXTXP3_111 (out), W3 MGTXTXN2_111 (out), W4 MGTXTXP2_111 (out), W7 MGTREFCLK1N_111 (in), W8 MGTREFCLK1P_111 (in), Y1 MGTXTXN1_111 (out), Y2 MGTXTXP1_111 (out), Y5 MGTXRXN2_111 (in), Y6 MGTXRXP2_111 (in)
part M pins: AB9 MGTRREF_112 (in), AB10 MGTAVTTRCAL_112, N3 MGTXTXN3_112 (out), N4 MGTXTXP3_112 (out), N7 MGTREFCLK0N_112 (in), N8 MGTREFCLK0P_112 (in), P1 MGTXTXN2_112 (out), P2 MGTXTXP2_112 (out), P5 MGTXRXN3_112 (in), P6 MGTXRXP3_112 (in), R3 MGTXTXN1_112 (out), R4 MGTXTXP1_112 (out), R7 MGTREFCLK1N_112 (in), R8 MGTREFCLK1P_112 (in), T1 MGTXTXN0_112 (out), T2 MGTXTXP0_112 (out), T5 MGTXRXN2_112 (in), T6 MGTXRXP2_112 (in), U3 MGTXRXN1_112 (in), U4 MGTXRXP1_112 (in), V5 MGTXRXN0_112 (in), V6 MGTXRXP0_112 (in)
part N pins: A22 PS_CLK_500 (io), A23 PS_MIO11_500 (io), A24 PS_MIO9_500 (io), B22 PS_MIO14_500 (io), B24 PS_MIO7_500 (io), C21 PS_MIO8_500 (io), C22 PS_MIO15_500 (io), C23 PS_MIO3_500 (io), C24 PS_MIO5_500 (io), D21 PS_POR_B_500 (io), D23 PS_MIO1_500 (io), D24 PS_MIO6_500 (io), E21 PS_MIO12_500 (io), E22 PS_MIO10_500 (io), E23 PS_MIO4_500 (io), F22 PS_MIO13_500 (io), F23 PS_MIO2_500 (io), F24 PS_MIO0_500 (io)
part O pins: A18 PS_MIO47_501 (io), A19 PS_MIO50_501 (io), A20 PS_MIO38_501 (io), B19 PS_SRST_B_501 (in), B20 PS_MIO40_501 (io), B21 PS_MIO37_501 (io), C18 PS_MIO53_501 (io), C19 PS_MIO48_501 (io), D18 PS_MIO49_501 (io), D19 PS_MIO52_501 (io), D20 PS_MIO42_501 (io), E18 PS_MIO43_501 (io), E20 PS_MIO44_501 (io), F18 PS_MIO39_501 (io), F19 PS_MIO51_501 (io), F20 PS_MIO46_501 (io), G19 PS_MIO25_501 (io), G20 PS_MIO27_501 (io), G21 PS_MIO35_501 (io), G22 PS_MIO33_501 (io), H17 PS_MIO36_501 (io), H18 PS_MIO45_501 (io), H19 PS_MIO_VREF_501, H21 PS_MIO31_501 (io), H22 PS_MIO29_501 (io), J18 PS_MIO41_501 (io), J19 PS_MIO21_501 (io), J20 PS_MIO19_501 (io), J21 PS_MIO23_501 (io), K17 PS_MIO32_501 (io), K18 PS_MIO34_501 (io), K20 PS_MIO18_501 (io), K21 PS_MIO17_501 (io), L17 PS_MIO28_501 (io), L18 PS_MIO30_501 (io), L19 PS_MIO16_501 (io), L20 PS_MIO22_501 (io), M17 PS_MIO26_501 (io), M19 PS_MIO24_501 (io), M20 PS_MIO20_501 (io)
part P pins: A25 PS_DDR_DQ0_502 (io), A27 PS_DDR_DQ9_502 (io), A28 PS_DDR_DQ11_502 (io), A29 PS_DDR_DQ8_502 (io), A30 PS_DDR_DQ10_502 (io), B25 PS_DDR_DQ4_502 (io), B26 PS_DDR_DQS_N0_502 (io), B27 PS_DDR_DQ2_502 (io), B29 PS_DDR_DQS_N1_502 (io), C26 PS_DDR_DQS_P0_502 (io), C28 PS_DDR_DQ12_502 (io), C29 PS_DDR_DQS_P1_502 (io), D25 PS_DDR_DQ3_502 (io), D26 PS_DDR_DQ6_502 (io), D28 PS_DDR_DQ14_502 (io), D29 PS_DDR_DQ15_502 (io), D30 PS_DDR_DQ13_502 (io), E25 PS_DDR_DQ1_502 (io), E26 PS_DDR_DQ5_502 (io), E27 PS_DDR_DQ7_502 (io), E28 PS_DDR_DQ19_502 (io), E30 PS_DDR_DQ20_502 (io), F28 PS_DDR_DQ21_502 (io), F29 PS_DDR_DQS_N2_502 (io), F30 PS_DDR_DQ23_502 (io), G27 PS_DDR_DQ17_502 (io), G29 PS_DDR_DQS_P2_502 (io), G30 PS_DDR_DQ22_502 (io), H27 PS_DDR_DQ16_502 (io), H28 PS_DDR_DQ18_502 (io), J28 PS_DDR_DQ27_502 (io), J29 PS_DDR_DQ24_502 (io), J30 PS_DDR_DQ26_502 (io), K27 PS_DDR_DQ25_502 (io), K30 PS_DDR_DQ28_502 (io), L28 PS_DDR_DQS_P3_502 (io), L29 PS_DDR_DQS_N3_502 (io), L30 PS_DDR_DQ30_502 (io), M29 PS_DDR_DQ29_502 (io), M30 PS_DDR_DQ31_502 (io)
part Q pins: B30 PS_DDR_DM1_502 (io), C27 PS_DDR_DM0_502 (io), F25 PS_DDR_DRST_B_502 (io), F27 PS_DDR_A8_502 (io), G24 PS_DDR_A5_502 (io), G25 PS_DDR_A3_502 (io), G26 PS_DDR_A10_502 (io), H23 PS_DDR_A13_502 (io), H24 PS_DDR_A11_502 (io), H26 PS_DDR_A6_502 (io), H29 PS_DDR_DM2_502 (io), J23 PS_DDR_A9_502 (io), J24 PS_DDR_A14_502 (io), J25 PS_DDR_CKN_502 (io), J26 PS_DDR_A4_502 (io), K22 PS_DDR_A7_502 (io), K23 PS_DDR_A12_502 (io), K25 PS_DDR_CKP_502 (io), K26 PS_DDR_A1_502 (io), K28 PS_DDR_DM3_502 (io), L23 PS_DDR_ODT_502 (io), L25 PS_DDR_A0_502 (io), L27 PS_DDR_A2_502 (io), M21 PS_DDR_VRP_502 (io), M22 PS_DDR_CKE_502 (io), M24 PS_DDR_CAS_B_502 (io), M25 PS_DDR_BA2_502 (io), M26 PS_DDR_BA1_502 (io), M27 PS_DDR_BA0_502 (io), N21 PS_DDR_VRN_502 (io), N22 PS_DDR_CS_B_502 (io), N23 PS_DDR_WE_B_502 (io), N24 PS_DDR_RAS_B_502 (io)
part R pins: AA2 MGTAVTT (power), AA6 MGTAVCC (power), AB4 MGTAVTT (power), AB8 MGTAVCC (power), AC2 MGTAVTT (power), AC6 MGTAVCC (power), AC10 MGTAVCC (power), AD4 MGTAVTT (power), AD8 MGTAVCC (power), AE2 MGTAVTT (power), AE6 MGTAVCC (power), AE10 MGTAVCC (power), AF4 MGTAVTT (power), AF8 MGTAVCC (power), AG2 MGTAVTT (power), AG6 MGTAVTT (power), AG10 MGTAVCC (power), AH4 MGTAVTT (power), AH8 MGTAVCC (power), AJ2 MGTAVTT (power), AJ6 MGTAVTT (power), AJ10 MGTAVCC (power), AK4 MGTAVTT (power), AK8 MGTAVTT (power), N2 MGTAVTT (power), N6 MGTAVCC (power), P4 MGTAVTT (power), P8 MGTAVCC (power), R2 MGTAVTT (power), R6 MGTAVCC (power), T4 MGTAVTT (power), T7 MGTVCCAUX (power), U2 MGTAVTT (power), U6 MGTAVCC (power), V4 MGTAVTT (power), V7 MGTVCCAUX (power), W2 MGTAVTT (power), W6 MGTAVCC (power), Y4 MGTAVTT (power), Y8 MGTAVCC (power)
part S pins: A26 VCCO_DDR_502 (power), B23 VCCO_MIO0_500 (power), C20 VCCO_MIO1_501 (power), C30 VCCO_DDR_502 (power), D27 VCCO_DDR_502 (power), E24 VCCO_MIO0_500 (power), F21 VCCO_MIO0_500 (power), G18 VCCO_MIO1_501 (power), G28 VCCO_DDR_502 (power), H25 VCCO_DDR_502 (power), J22 VCCO_MIO1_501 (power), K19 VCCO_MIO1_501 (power), K29 VCCO_DDR_502 (power), L22 PS_DDR_VREF0_502 (power), L24 PS_DDR_VREF1_502 (power), L26 VCCO_DDR_502 (power), M23 VCCO_DDR_502 (power), N16 VCCPINT (power), N18 VCCPLL (power), N20 VCCPAUX (power), P17 VCCPINT (power), P19 VCCPAUX (power), R18 VCCPINT (power), R20 VCCPAUX (power), T17 VCCPINT (power), T19 VCCPINT (power), U18 VCCPINT (power), U20 VCCPAUX (power)
part T pins: A6 VCCO_34 (power), A16 VCCO_35 (power), AA16 VCCO_10 (power), AA26 VCCO_12 (power), AB13 VCCO_10 (power), AB23 VCCO_11 (power), AC20 VCCO_9 (power), AC30 VCCO_12 (power), AD17 VCCO_10 (power), AD27 VCCO_12 (power), AE14 VCCO_10 (power), AE24 VCCO_11 (power), AF21 VCCO_11 (power), AG18 VCCO_10 (power), AG28 VCCO_12 (power), AH15 VCCO_10 (power), AH25 VCCO_11 (power), AJ12 VCCO_10 (power), AJ22 VCCO_11 (power), AK19 VCCO_11 (power), AK29 VCCO_12 (power), B3 VCCO_33 (power), B13 VCCO_35 (power), C10 VCCO_34 (power), D7 VCCO_34 (power), D17 VCCO_35 (power), E4 VCCO_33 (power), E14 VCCO_35 (power), F1 VCCO_33 (power), F11 VCCO_34 (power), G8 VCCO_34 (power), H5 VCCO_33 (power), H15 VCCO_35 (power), J2 VCCO_33 (power), J12 VCCO_34 (power), K9 VCCO_34 (power), L6 VCCO_33 (power), L16 VCCO_35 (power), M11 VCCAUX (power), M13 VCCINT (power), M15 VCCINT (power), N10 VCCAUX (power), N12 VCCINT (power), N14 VCCINT (power), N30 VCCO_13 (power), P9 VCCBATT_0 (power), P11 VCCAUX_IO_G0 (power), P13 VCCINT (power), P15 VCCADC_0 (power), P27 VCCO_13 (power), R9 RSVDVCC3 (power), R10 VCCAUX (power), R12 VCCINT (power), R16 VCCINT (power), R24 VCCO_13 (power), T9 RSVDVCC2 (power), T11 VCCAUX_IO_G0 (power), T13 VCCINT (power), T21 VCCO_13 (power), U9 RSVDVCC1 (power), U10 VCCAUX (power), U12 VCCINT (power), U16 VCCINT (power), U28 VCCO_13 (power), V11 VCCAUX_IO_G0 (power), V13 VCCINT (power), V15 VCCINT (power), V17 VCCBRAM (power), V19 VCCBRAM (power), V25 VCCO_13 (power), W10 VCCAUX (power), W12 VCCINT (power), W14 VCCINT (power), W16 VCCINT (power), W18 VCCBRAM (power), W20 VCCBRAM (power), W22 VCCO_11 (power), Y11 VCCAUX (power), Y13 VCCO_0 (power), Y15 VCCO_0 (power), Y17 VCCINT (power), Y19 VCCO_9 (power), Y29 VCCO_12 (power)
part U pins: A1 GND (power), A11 GND (power), A21 GND (power), AA1 GND (power), AA5 GND (power), AA10 GND (power), AA11 GND (power), AA12 RSVDGND (power), AA21 GND (power), AB3 GND (power), AB7 GND (power), AB11 GND (power), AB18 GND (power), AB28 GND (power), AC1 GND (power), AC5 GND (power), AC9 GND (power), AC11 GND (power), AC15 GND (power), AC25 GND (power), AD3 GND (power), AD7 GND (power), AD11 GND (power), AD12 GND (power), AD22 GND (power), AE1 GND (power), AE5 GND (power), AE9 GND (power), AE11 GND (power), AE19 GND (power), AE29 GND (power), AF3 GND (power), AF7 GND (power), AF11 GND (power), AF16 GND (power), AF26 GND (power), AG1 GND (power), AG5 GND (power), AG9 GND (power), AG11 GND (power), AG13 GND (power), AG23 GND (power), AH3 GND (power), AH7 GND (power), AH11 GND (power), AH20 GND (power), AH30 GND (power), AJ1 GND (power), AJ5 GND (power), AJ9 GND (power), AJ11 GND (power), AJ17 GND (power), AJ27 GND (power), AK3 GND (power), AK7 GND (power), AK11 GND (power), AK14 GND (power), AK24 GND (power), B8 GND (power), B18 GND (power), B28 GND (power), C5 GND (power), C15 GND (power), C25 GND (power), D2 GND (power), D12 GND (power), D22 GND (power), E9 GND (power), E19 GND (power), E29 GND (power), F6 GND (power), F16 GND (power), F26 GND (power), G3 GND (power), G13 GND (power), G23 GND (power), H10 GND (power), H20 GND (power), H30 GND (power), J7 GND (power), J17 GND (power), J27 GND (power), K4 GND (power), K14 GND (power), K24 GND (power), L11 GND (power), L21 GND (power), M1 GND (power), M2 GND (power), M3 GND (power), M4 GND (power), M5 GND (power), M6 GND (power), M7 GND (power), M8 GND (power), M9 GND (power), M14 GND (power), M18 GND (power), M28 GND (power), N1 GND (power), N5 GND (power), N9 GND (power), N11 GND (power), N13 GND (power), N15 GND (power), N17 GND (power), N19 GND (power), N25 GND (power), P3 GND (power), P7 GND (power), P12 GND (power), P14 GNDADC_0 (power), P16 GND (power), P18 GND (power), P20 GND (power), P22 GND (power), R1 GND (power), R5 GND (power), R11 GND (power), R13 GND (power), R17 GND (power), R19 GND (power), R29 GND (power), T3 GND (power), T8 GND (power), T10 GND (power), T12 GND (power), T16 GND (power), T18 GND (power), T20 GND (power), T26 GND (power), U1 GND (power), U5 GND (power), U11 GND (power), U13 GND (power), U17 GND (power), U19 GND (power), U23 GND (power), V3 GND (power), V8 GND (power), V12 GND (power), V14 GND (power), V16 GND (power), V18 GND (power), V20 GND (power), V30 GND (power), W1 GND (power), W5 GND (power), W11 GND (power), W13 GND (power), W15 GND (power), W17 GND (power), W19 GND (power), W27 GND (power), Y3 GND (power), Y7 GND (power), Y14 GND (power), Y16 GND (power), Y18 GND (power), Y24 GND (power)
part A text: Xilinx Zynq-7000 XC7Z035-2FFG900I; BANK 0
part B text: Xilinx Zynq-7000 XC7Z035-2FFG900I; BANK 9
part C text: Xilinx Zynq-7000 XC7Z035-2FFG900I; BANK 10
part D text: Xilinx Zynq-7000 XC7Z035-2FFG900I; BANK 11
part E text: Xilinx Zynq-7000 XC7Z035-2FFG900I; BANK 12
part F text: Xilinx Zynq-7000 XC7Z035-2FFG900I; BANK 13
part G text: Xilinx Zynq-7000 XC7Z035-2FFG900I; BANK 33
part H text: Xilinx Zynq-7000 XC7Z035-2FFG900I; BANK 34
part I text: Xilinx Zynq-7000 XC7Z035-2FFG900I; BANK 35
part J text: Xilinx Zynq-7000 XC7Z035-2FFG900I; BANK 109
part K text: Xilinx Zynq-7000 XC7Z035-2FFG900I; BANK 110
part L text: Xilinx Zynq-7000 XC7Z035-2FFG900I; BANK 111
part M text: Xilinx Zynq-7000 XC7Z035-2FFG900I; BANK 112
part N text: Xilinx Zynq-7000 XC7Z035-2FFG900I; BANK 500
part O text: Xilinx Zynq-7000 XC7Z035-2FFG900I; BANK 501
part P text: Xilinx Zynq-7000 XC7Z035-2FFG900I; BANK 502
part Q text: Xilinx Zynq-7000 XC7Z035-2FFG900I; BANK 502
part R text: Xilinx Zynq-7000 XC7Z035-2FFG900I; MGTA Power
part S text: Xilinx Zynq-7000 XC7Z035-2FFG900I; PS Power
part T text: Xilinx Zynq-7000 XC7Z035-2FFG900I; PL Power
part U text: Xilinx Zynq-7000 XC7Z035-2FFG900I; Ground

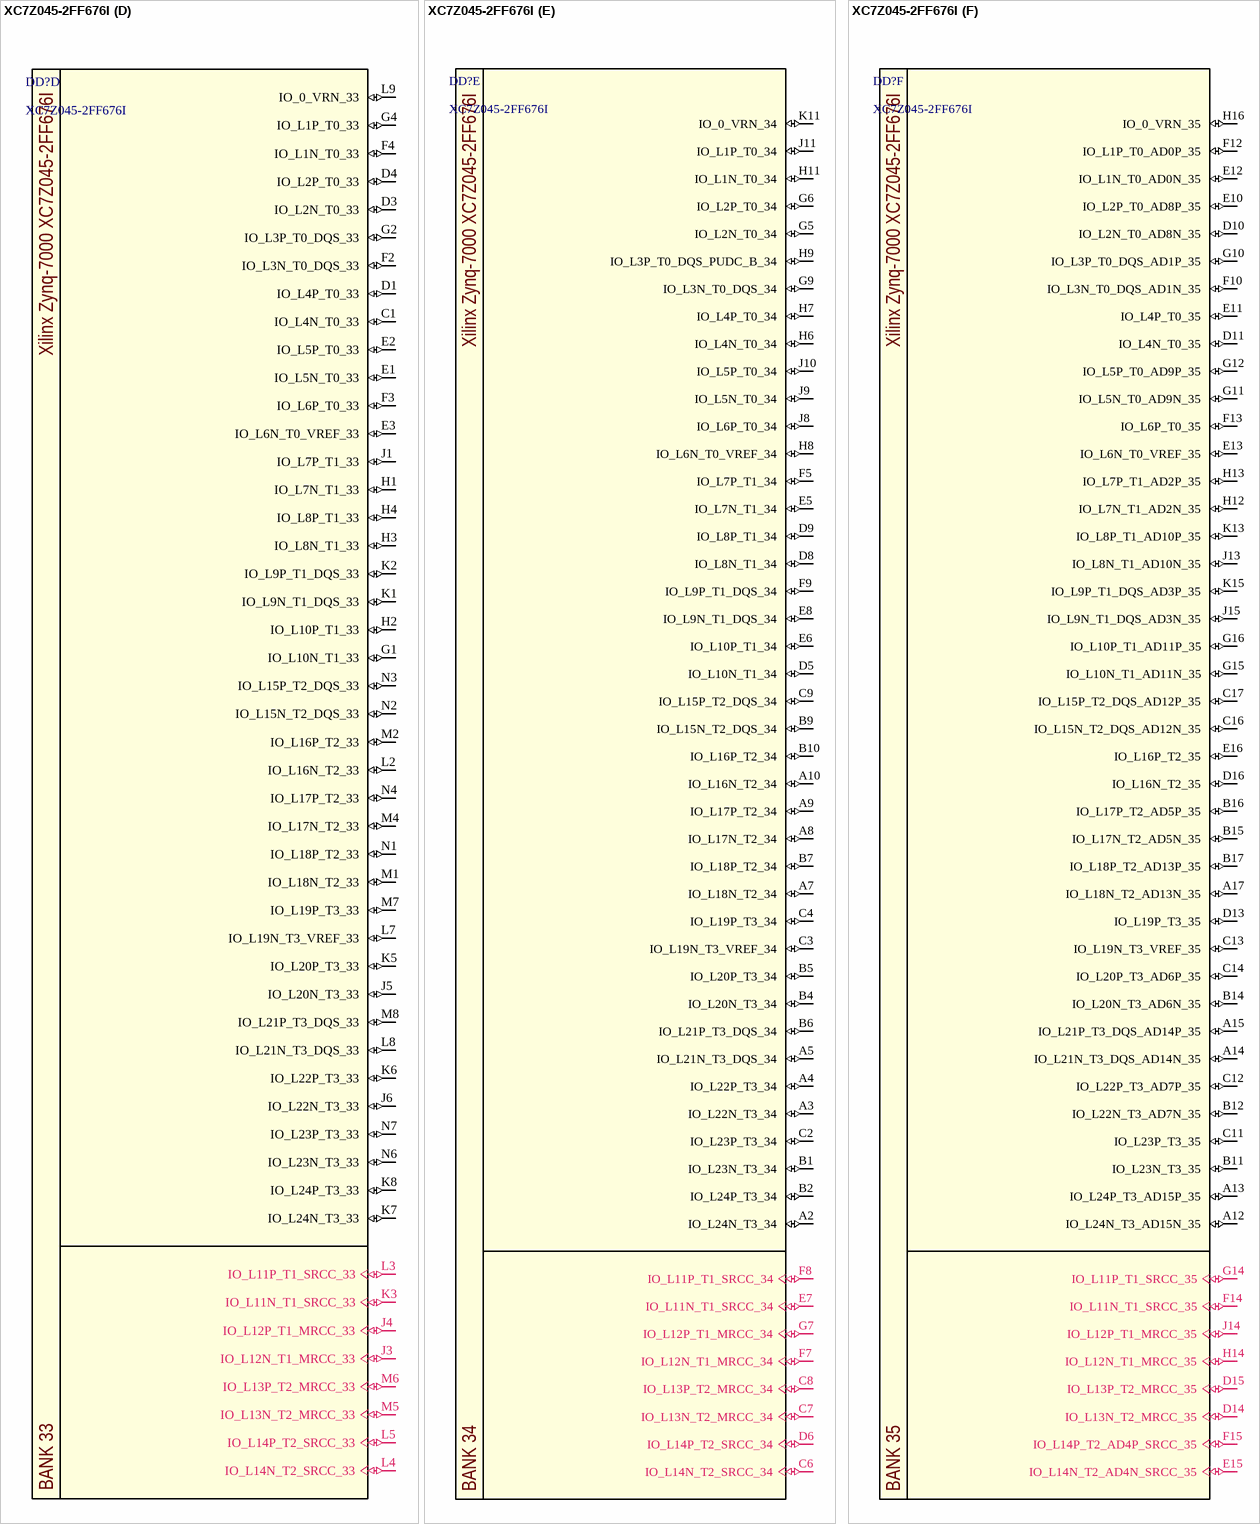
[diagram p43: symbol XC7Z045-2FF676I]

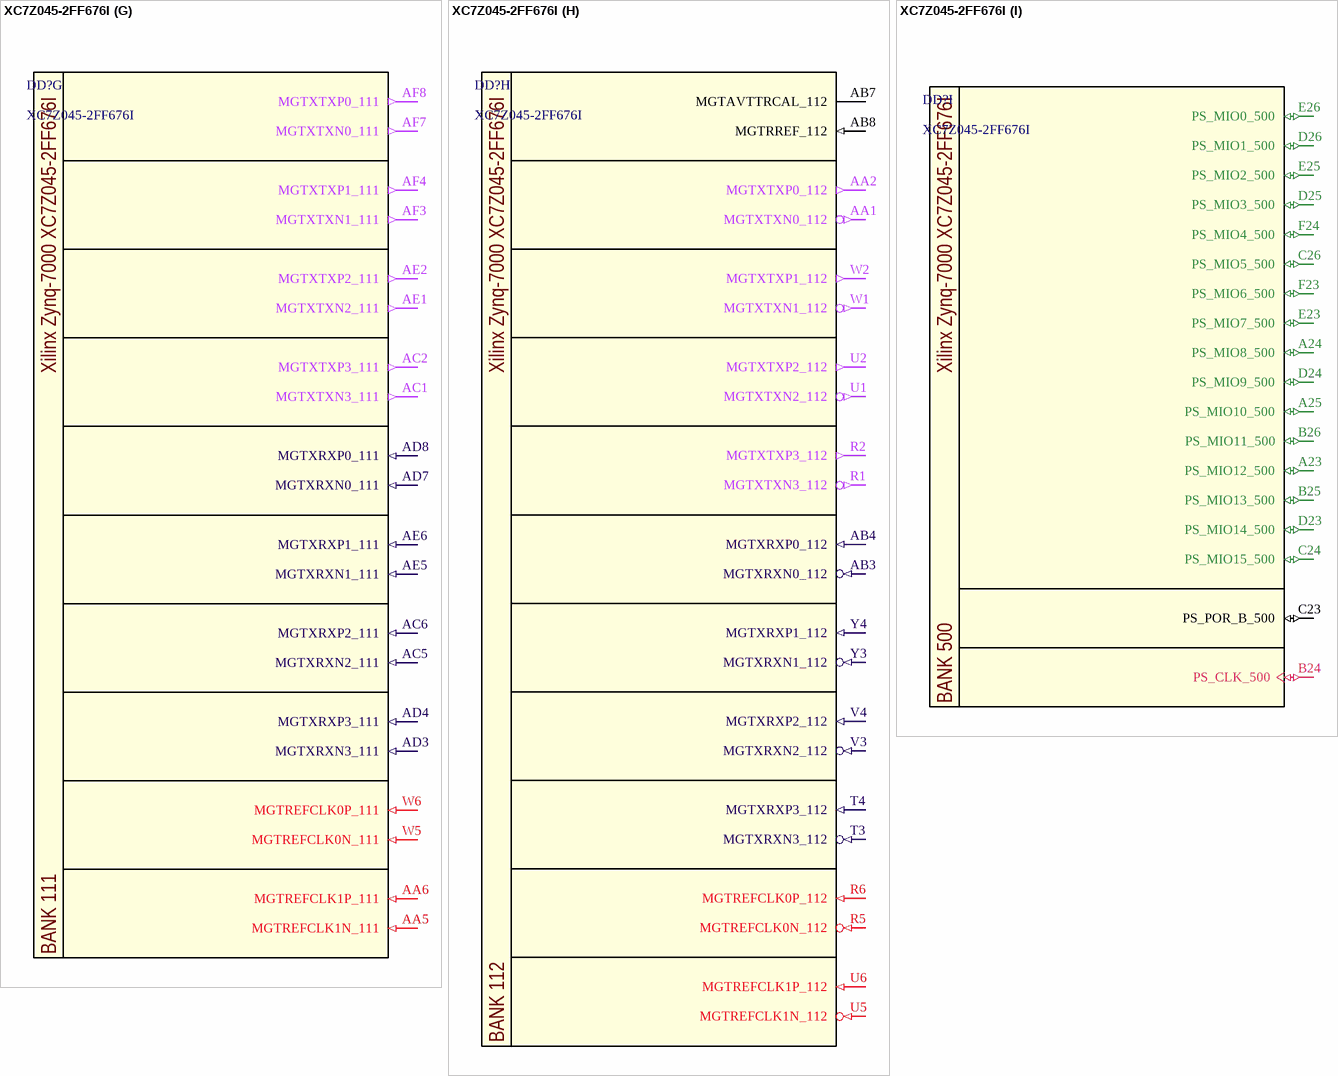
[diagram p44: symbol XC7Z045-2FF676I]

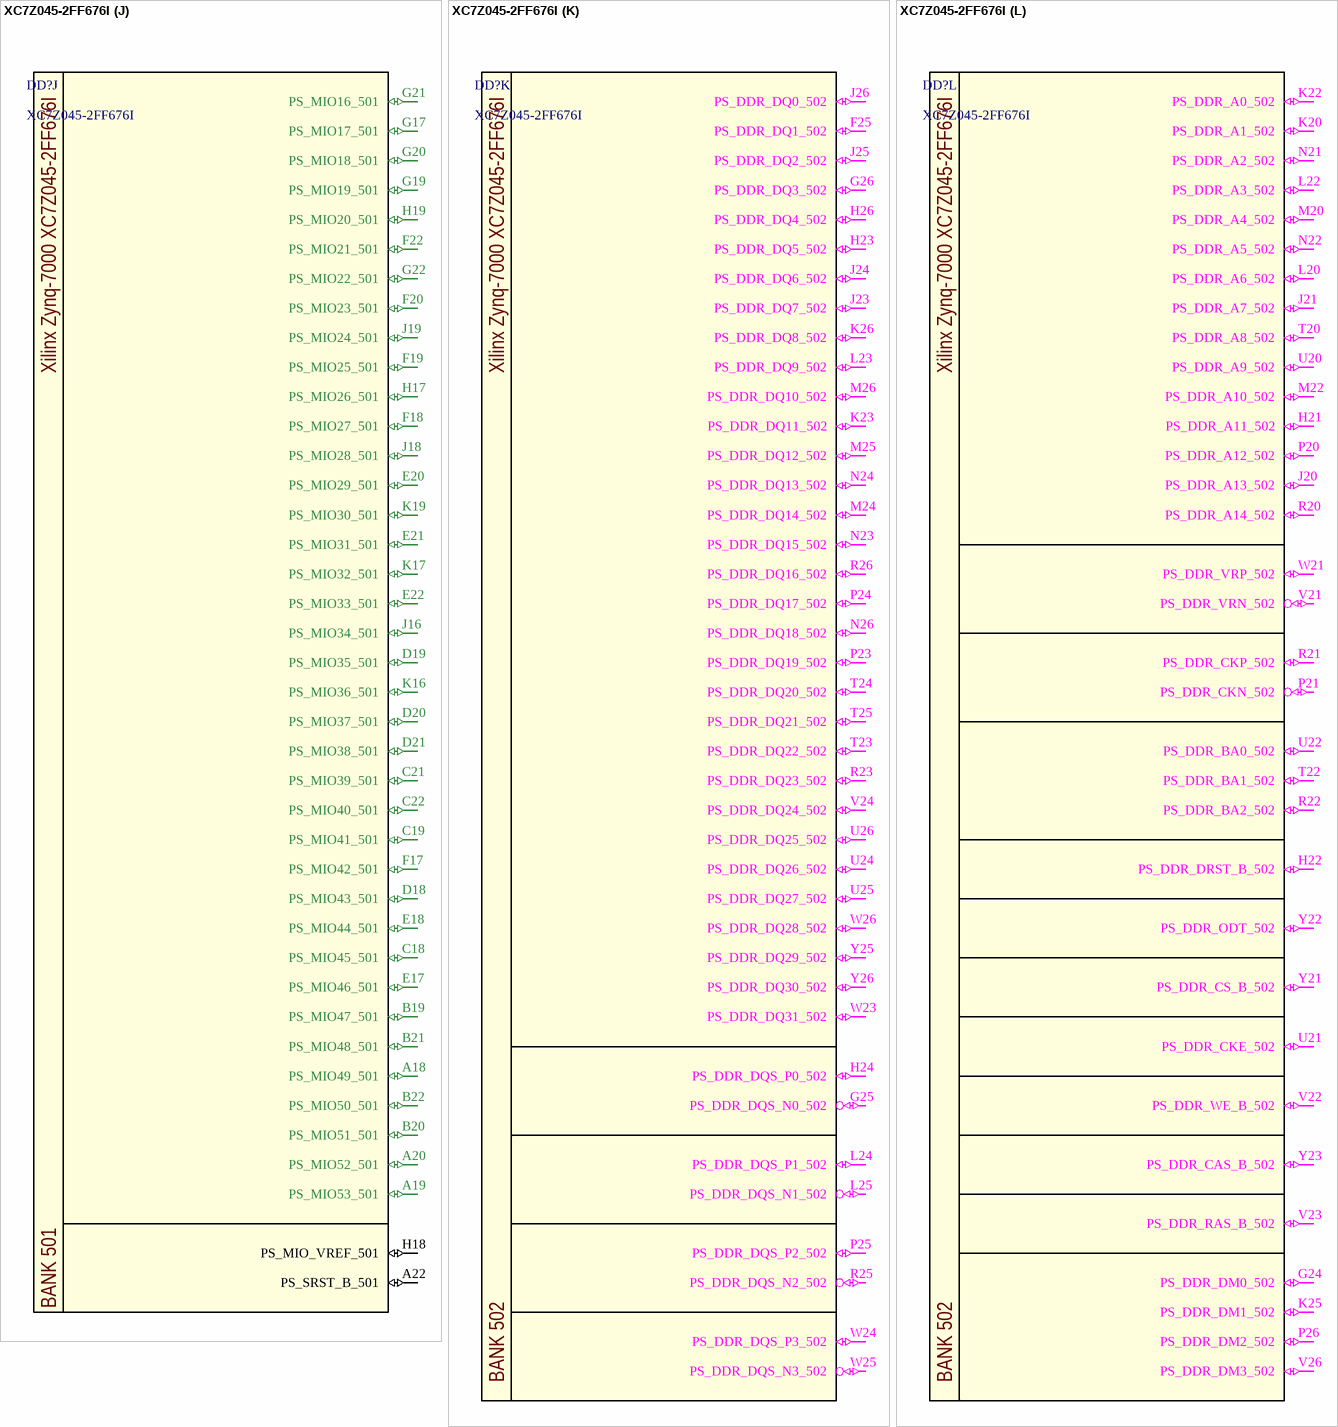
[diagram p45: symbol XC7Z045-2FF676I]

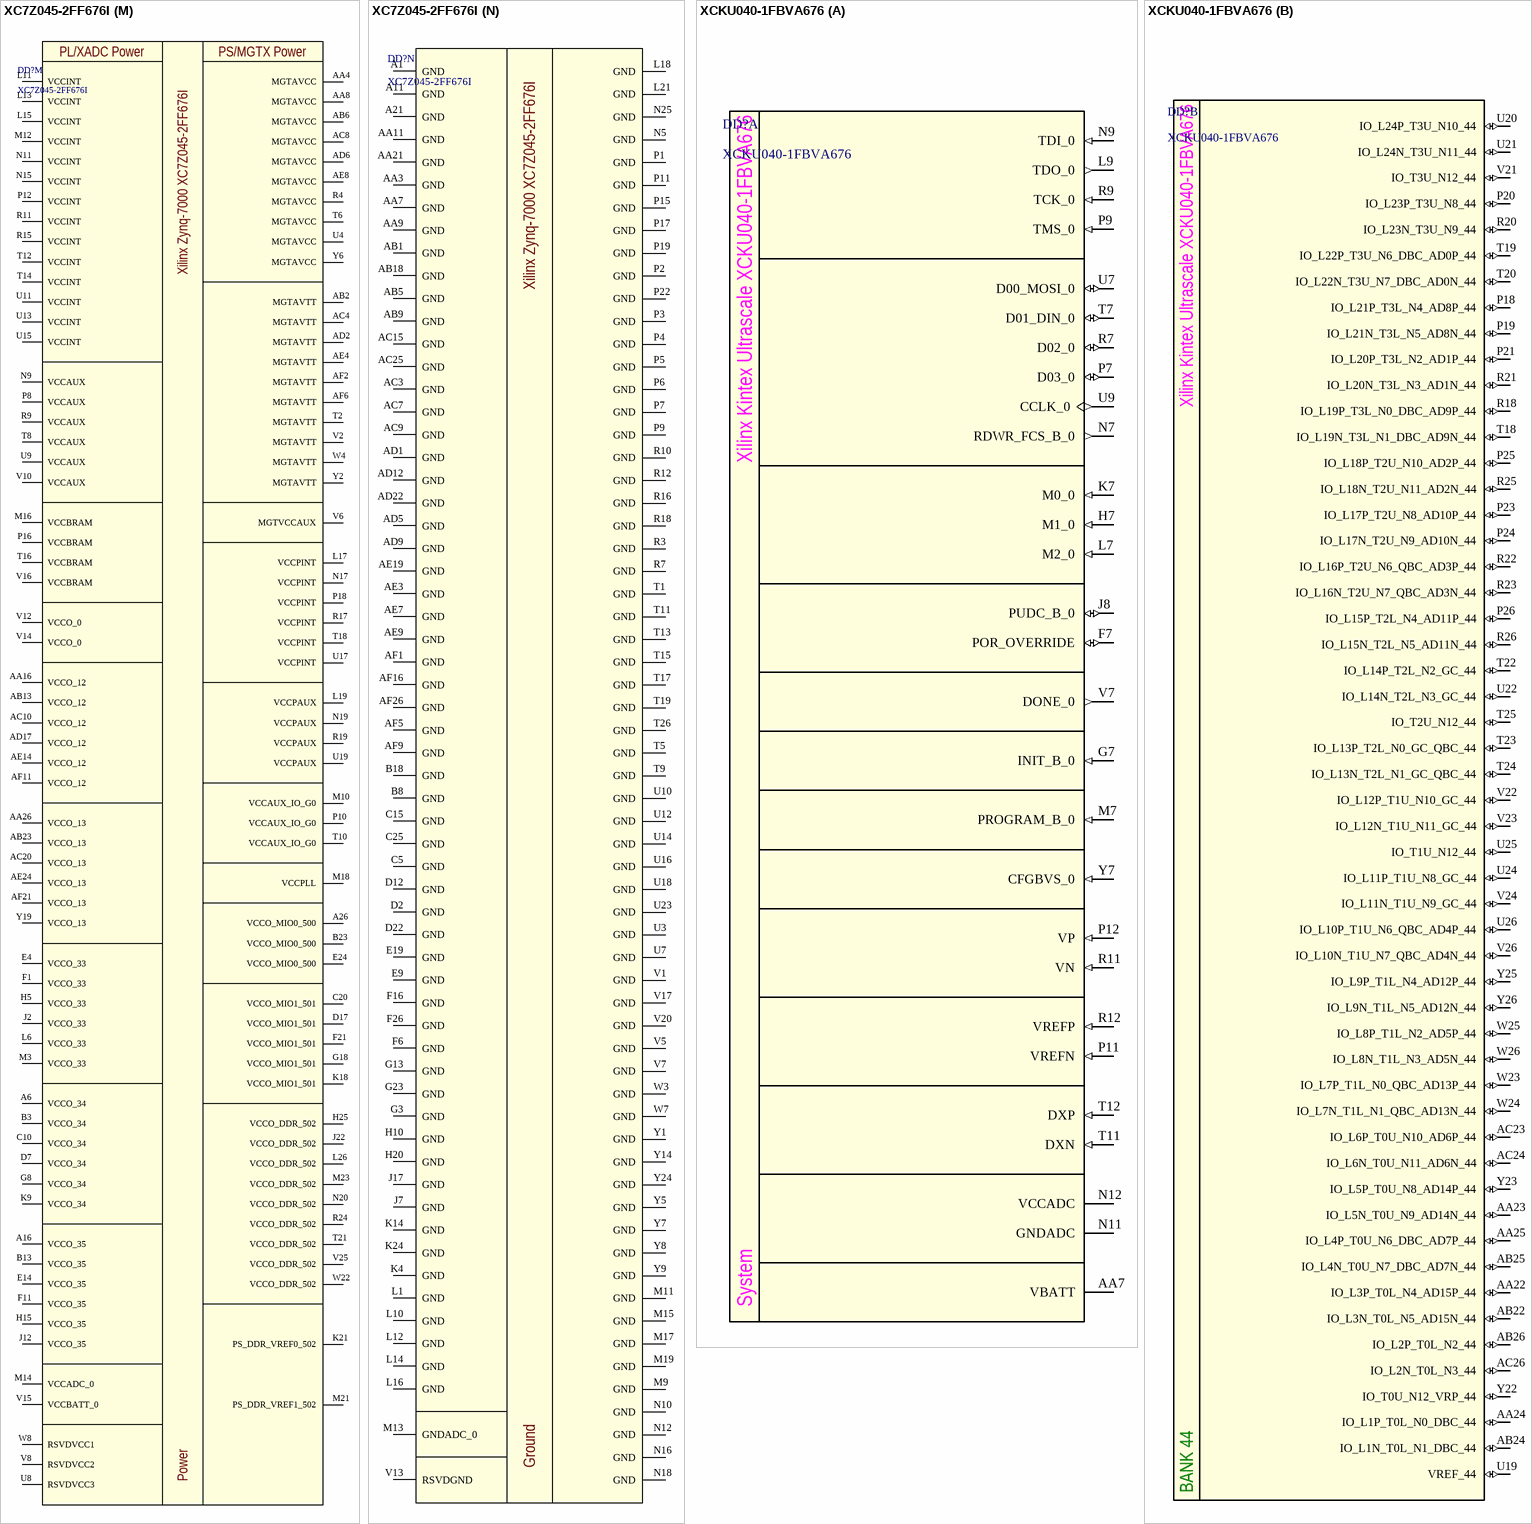
[diagram p46: symbols XC7Z045-2FF676I to XCKU040-1FBVA676]